# Altium schematic symbol library FPGA_Xilinx_Virtex6.SchLib: 28 symbols (part 7 of 15)
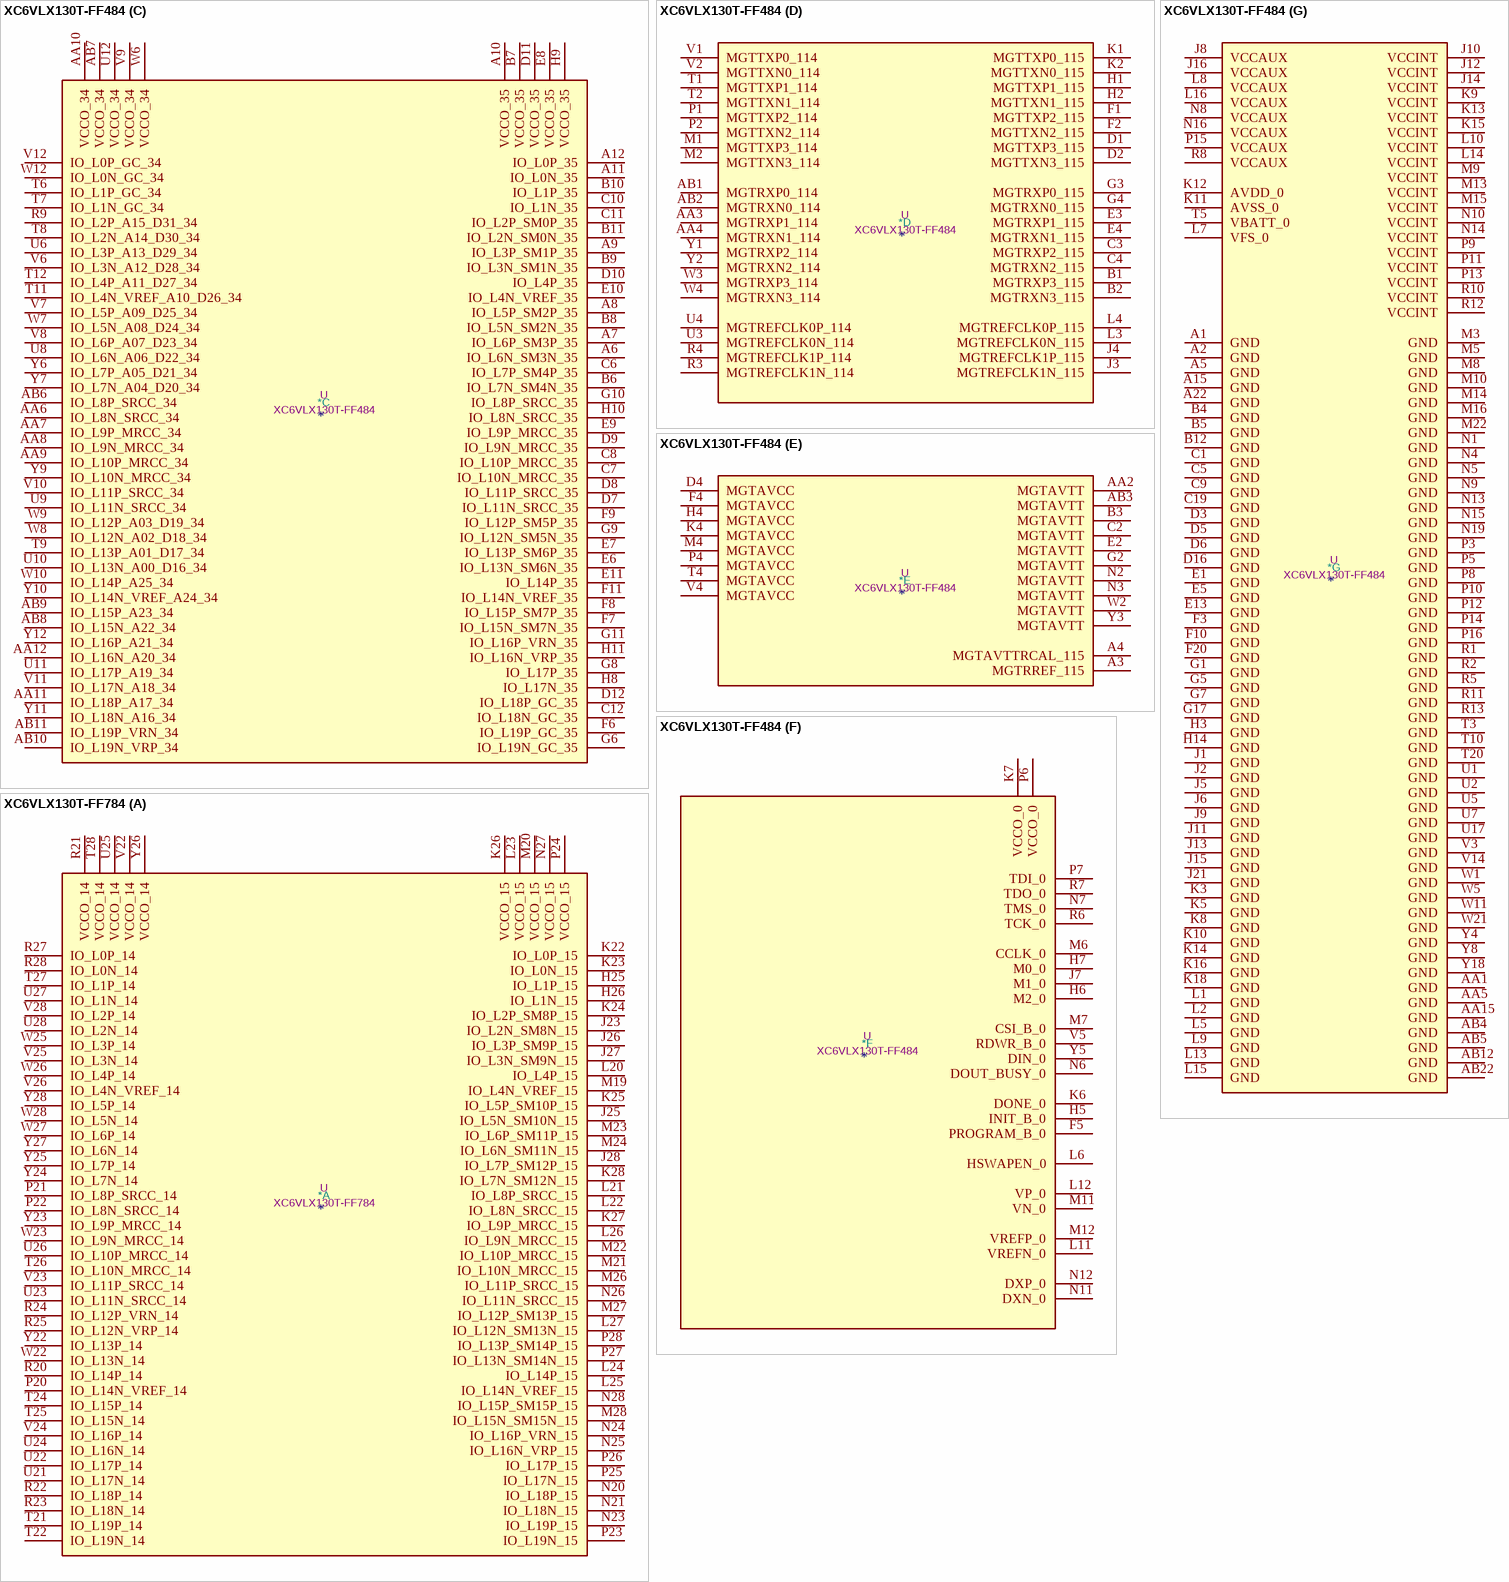
[diagram p107: symbols XC6VLX130T-FF484 to XC6VLX130T-FF784]

## XC6VLX130T-FF484
designator *  value XC6VLX130T-FF484  Reference: U
Virtex 6 LXT 130 XC6VLX130T-FF484; ki_keywords: FPGA; Description_: Virtex 6 LXT 130 XC6VLX130T-FF484
part A pins: A20 VCCO_15, A21 IO_L2P_SM8P_15, AA20 VCCO_14, AA21 IO_L15P_14, AA22 IO_L14N_VREF_14, AB20 IO_L16P_14, AB21 IO_L16N_14, B20 IO_L0P_15, B21 IO_L2N_SM8N_15, B22 IO_L5P_SM10P_15, C20 IO_L0N_15, C21 IO_L5N_SM10N_15, C22 IO_L10P_MRCC_15, D19 IO_L7N_SM12N_15, D20 IO_L9P_MRCC_15, D21 VCCO_15, D22 IO_L10N_MRCC_15, E19 IO_L7P_SM12P_15, E20 IO_L9N_MRCC_15, E21 IO_L11P_SRCC_15, E22 IO_L11N_SRCC_15, F18 IO_L1N_15, F19 IO_L3N_SM9N_15, F21 IO_L12P_SM13P_15, F22 IO_L12N_SM13N_15, G18 IO_L1P_15, G19 IO_L3P_SM9P_15, G20 IO_L17N_15, G21 IO_L15P_SM15P_15, G22 VCCO_15, H17 IO_L14P_15, H18 IO_L14N_VREF_15, H19 VCCO_15, H20 IO_L17P_15, H21 IO_L15N_SM15N_15, H22 IO_L18N_15, J17 IO_L4N_VREF_15, J18 IO_L4P_15, J19 IO_L8N_SRCC_15, J20 IO_L13P_SM14P_15, J22 IO_L18P_15, K17 IO_L6P_SM11P_15, K19 IO_L8P_SRCC_15, K20 IO_L13N_SM14N_15, K21 IO_L19P_15, K22 IO_L19N_15, L17 IO_L6N_SM11N_15, L18 IO_L16P_VRN_15, L19 IO_L16N_VRP_15, L20 VCCO_15, L21 IO_L3N_14, L22 IO_L3P_14, M17 VCCO_14, M18 IO_L0P_14, M19 IO_L1N_14, M20 IO_L1P_14, M21 IO_L7P_14, N17 IO_L6P_14, N18 IO_L0N_14, N20 IO_L7N_14, N21 IO_L2N_14, N22 IO_L2P_14, P17 IO_L6N_14, P18 IO_L12P_VRN_14, P19 IO_L9P_MRCC_14, P20 IO_L9N_MRCC_14, P21 VCCO_14, P22 IO_L4P_14, R17 IO_L12N_VRP_14, R18 VCCO_14, R19 IO_L11P_SRCC_14, R20 IO_L11N_SRCC_14, R21 IO_L5P_14, R22 IO_L4N_VREF_14, T18 IO_L17P_14, T19 IO_L17N_14, T21 IO_L8N_SRCC_14, T22 IO_L5N_14, U19 IO_L13P_14, U20 IO_L13N_14, U21 IO_L8P_SRCC_14, U22 VCCO_14, V20 IO_L19P_14, V21 IO_L19N_14, V22 IO_L10N_MRCC_14, W20 IO_L18N_14, W22 IO_L10P_MRCC_14, Y20 IO_L18P_14, Y21 IO_L15N_14, Y22 IO_L14P_14
part B pins: A13 IO_L12P_25, A14 IO_L2P_25, A16 IO_L5P_25, A17 IO_L7P_25, A18 IO_L7N_25, A19 IO_L10P_MRCC_25, AA13 IO_L16N_CSO_B_24, AA14 IO_L18N_24, AA16 IO_L11P_SRCC_24, AA17 IO_L10N_MRCC_24, AA18 IO_L8N_SRCC_24, AA19 IO_L9P_MRCC_24, AB13 IO_L16P_RS0_24, AB14 IO_L18P_24, AB15 IO_L19P_24, AB16 IO_L19N_24, AB17 VCCO_24, AB18 IO_L8P_SRCC_24, AB19 IO_L9N_MRCC_24, B13 IO_L12N_25, B14 IO_L2N_25, B15 IO_L1P_25, B16 IO_L5N_25, B17 VCCO_25, B18 IO_L13P_25, B19 IO_L10N_MRCC_25, C13 IO_L8P_SRCC_25, C14 VCCO_25, C15 IO_L1N_25, C16 IO_L11P_SRCC_25, C17 IO_L11N_SRCC_25, C18 IO_L13N_25, D13 IO_L8N_SRCC_25, D14 IO_L0P_25, D15 IO_L3P_25, D17 IO_L17P_25, D18 IO_L17N_25, E12 IO_L6N_25, E14 IO_L0N_25, E15 IO_L3N_25, E16 IO_L9P_MRCC_25, E17 IO_L19P_GC_25, E18 VCCO_25, F12 IO_L6P_25, F13 IO_L4P_25, F14 IO_L14N_VREF_25, F15 VCCO_25, F16 IO_L9N_MRCC_25, F17 IO_L19N_GC_25, G12 VCCO_25, G13 IO_L4N_VREF_25, G14 IO_L14P_25, G15 IO_L18P_GC_25, G16 IO_L15P_25, H12 IO_L16P_VRN_25, H13 IO_L16N_VRP_25, H15 IO_L18N_GC_25, H16 IO_L15N_25, R14 IO_L12P_D3_24, R15 IO_L12N_D2_FS2_24, R16 IO_L2N_D14_24, T13 IO_L0P_GC_24, T14 IO_L15P_FWE_B_24, T15 VCCO_24, T16 IO_L2P_D15_24, T17 IO_L1P_GC_24, U13 IO_L0N_GC_24, U14 IO_L15N_RS1_24, U15 IO_L13P_D1_FS1_24, U16 IO_L6N_D6_24, U18 IO_L1N_GC_24, V13 IO_L4P_D11_24, V15 IO_L13N_D0_FS0_24, V16 IO_L6P_D7_24, V17 IO_L3P_D13_24, V18 IO_L3N_D12_24, V19 VCCO_24, W13 IO_L4N_VREF_D10_24, W14 IO_L17N_VRP_24, W15 IO_L14P_FCS_B_24, W16 VCCO_24, W17 IO_L5N_D8_24, W18 IO_L5P_D9_24, W19 IO_L7P_D5_24, Y13 VCCO_24, Y14 IO_L17P_VRN_24, Y15 IO_L14N_VREF_FOE_B_MOSI_24, Y16 IO_L11N_SRCC_24, Y17 IO_L10P_MRCC_24, Y19 IO_L7N_D4_24
part C pins: A6 IO_L6N_SM3N_35, A7 IO_L6P_SM3P_35, A8 IO_L5P_SM2P_35, A9 IO_L3P_SM1P_35, A10 VCCO_35, A11 IO_L0N_35, A12 IO_L0P_35, AA6 IO_L8N_SRCC_34, AA7 IO_L9P_MRCC_34, AA8 IO_L9N_MRCC_34, AA9 IO_L10P_MRCC_34, AA10 VCCO_34, AA11 IO_L18P_A17_34, AA12 IO_L16N_A20_34, AB6 IO_L8P_SRCC_34, AB7 VCCO_34, AB8 IO_L15N_A22_34, AB9 IO_L15P_A23_34, AB10 IO_L19N_VRP_34, AB11 IO_L19P_VRN_34, B6 IO_L7N_SM4N_35, B7 VCCO_35, B8 IO_L5N_SM2N_35, B9 IO_L3N_SM1N_35, B10 IO_L1P_35, B11 IO_L2N_SM0N_35, C6 IO_L7P_SM4P_35, C7 IO_L10N_MRCC_35, C8 IO_L10P_MRCC_35, C10 IO_L1N_35, C11 IO_L2P_SM0P_35, C12 IO_L18N_GC_35, D7 IO_L11N_SRCC_35, D8 IO_L11P_SRCC_35, D9 IO_L9N_MRCC_35, D10 IO_L4P_35, D11 VCCO_35, D12 IO_L18P_GC_35, E6 IO_L13N_SM6N_35, E7 IO_L13P_SM6P_35, E8 VCCO_35, E9 IO_L9P_MRCC_35, E10 IO_L4N_VREF_35, E11 IO_L14P_35, F6 IO_L19P_GC_35, F7 IO_L15N_SM7N_35, F8 IO_L15P_SM7P_35, F9 IO_L12P_SM5P_35, F11 IO_L14N_VREF_35, G6 IO_L19N_GC_35, G8 IO_L17P_35, G9 IO_L12N_SM5N_35, G10 IO_L8P_SRCC_35, G11 IO_L16P_VRN_35, H8 IO_L17N_35, H9 VCCO_35, H10 IO_L8N_SRCC_35, H11 IO_L16N_VRP_35, R9 IO_L2P_A15_D31_34, T6 IO_L1P_GC_34, T7 IO_L1N_GC_34, T8 IO_L2N_A14_D30_34, T9 IO_L13P_A01_D17_34, T11 IO_L4N_VREF_A10_D26_34, T12 IO_L4P_A11_D27_34, U6 IO_L3P_A13_D29_34, U8 IO_L6N_A06_D22_34, U9 IO_L11N_SRCC_34, U10 IO_L13N_A00_D16_34, U11 IO_L17P_A19_34, U12 VCCO_34, V6 IO_L3N_A12_D28_34, V7 IO_L5P_A09_D25_34, V8 IO_L6P_A07_D23_34, V9 VCCO_34, V10 IO_L11P_SRCC_34, V11 IO_L17N_A18_34, V12 IO_L0P_GC_34, W6 VCCO_34, W7 IO_L5N_A08_D24_34, W8 IO_L12N_A02_D18_34, W9 IO_L12P_A03_D19_34, W10 IO_L14P_A25_34, W12 IO_L0N_GC_34, Y6 IO_L7P_A05_D21_34, Y7 IO_L7N_A04_D20_34, Y9 IO_L10N_MRCC_34, Y10 IO_L14N_VREF_A24_34, Y11 IO_L18N_A16_34, Y12 IO_L16P_A21_34
part D pins: AA3 MGTRXP1_114, AA4 MGTRXN1_114, AB1 MGTRXP0_114, AB2 MGTRXN0_114, B1 MGTRXP3_115, B2 MGTRXN3_115, C3 MGTRXP2_115, C4 MGTRXN2_115, D1 MGTTXP3_115, D2 MGTTXN3_115, E3 MGTRXP1_115, E4 MGTRXN1_115, F1 MGTTXP2_115, F2 MGTTXN2_115, G3 MGTRXP0_115, G4 MGTRXN0_115, H1 MGTTXP1_115, H2 MGTTXN1_115, J3 MGTREFCLK1N_115, J4 MGTREFCLK1P_115, K1 MGTTXP0_115, K2 MGTTXN0_115, L3 MGTREFCLK0N_115, L4 MGTREFCLK0P_115, M1 MGTTXP3_114, M2 MGTTXN3_114, P1 MGTTXP2_114, P2 MGTTXN2_114, R3 MGTREFCLK1N_114, R4 MGTREFCLK1P_114, T1 MGTTXP1_114, T2 MGTTXN1_114, U3 MGTREFCLK0N_114, U4 MGTREFCLK0P_114, V1 MGTTXP0_114, V2 MGTTXN0_114, W3 MGTRXP3_114, W4 MGTRXN3_114, Y1 MGTRXP2_114, Y2 MGTRXN2_114
part E pins: A3 MGTRREF_115, A4 MGTAVTTRCAL_115, AA2 MGTAVTT, AB3 MGTAVTT, B3 MGTAVTT, C2 MGTAVTT, D4 MGTAVCC, E2 MGTAVTT, F4 MGTAVCC, G2 MGTAVTT, H4 MGTAVCC, K4 MGTAVCC, M4 MGTAVCC, N2 MGTAVTT, N3 MGTAVTT, P4 MGTAVCC, T4 MGTAVCC, V4 MGTAVCC, W2 MGTAVTT, Y3 MGTAVTT
part F pins: F5 PROGRAM_B_0, H5 INIT_B_0, H6 M2_0, H7 M0_0, J7 M1_0, K6 DONE_0, K7 VCCO_0, L6 HSWAPEN_0, L11 VREFN_0, L12 VP_0, M6 CCLK_0, M7 CSI_B_0, M11 VN_0, M12 VREFP_0, N6 DOUT_BUSY_0, N7 TMS_0, N11 DXN_0, N12 DXP_0, P6 VCCO_0, P7 TDI_0, R6 TCK_0, R7 TDO_0, V5 RDWR_B_0, Y5 DIN_0
part G pins: A1 GND, A2 GND, A5 GND, A15 GND, A22 GND, AA1 GND, AA5 GND, AA15 GND, AB4 GND, AB5 GND, AB12 GND, AB22 GND, B4 GND, B5 GND, B12 GND, C1 GND, C5 GND, C9 GND, C19 GND, D3 GND, D5 GND, D6 GND, D16 GND, E1 GND, E5 GND, E13 GND, F3 GND, F10 GND, F20 GND, G1 GND, G5 GND, G7 GND, G17 GND, H3 GND, H14 GND, J1 GND, J2 GND, J5 GND, J6 GND, J8 VCCAUX, J9 GND, J10 VCCINT, J11 GND, J12 VCCINT, J13 GND, J14 VCCINT, J15 GND, J16 VCCAUX, J21 GND, K3 GND, K5 GND, K8 GND, K9 VCCINT, K10 GND, K11 AVSS_0, K12 AVDD_0, K13 VCCINT, K14 GND, K15 VCCINT, K16 GND, K18 GND, L1 GND, L2 GND, L5 GND, L7 VFS_0, L8 VCCAUX, L9 GND, L10 VCCINT, L13 GND, L14 VCCINT, L15 GND, L16 VCCAUX, M3 GND, M5 GND, M8 GND, M9 VCCINT, M10 GND, M13 VCCINT, M14 GND, M15 VCCINT, M16 GND, M22 GND, N1 GND, N4 GND, N5 GND, N8 VCCAUX, N9 GND, N10 VCCINT, N13 GND, N14 VCCINT, N15 GND, N16 VCCAUX, N19 GND, P3 GND, P5 GND, P8 GND, P9 VCCINT, P10 GND, P11 VCCINT, P12 GND, P13 VCCINT, P14 GND, P15 VCCAUX, P16 GND, R1 GND, R2 GND, R5 GND, R8 VCCAUX, R10 VCCINT, R11 GND, R12 VCCINT, R13 GND, T3 GND, T5 VBATT_0, T10 GND, T20 GND, U1 GND, U2 GND, U5 GND, U7 GND, U17 GND, V3 GND, V14 GND, W1 GND, W5 GND, W11 GND, W21 GND, Y4 GND, Y8 GND, Y18 GND

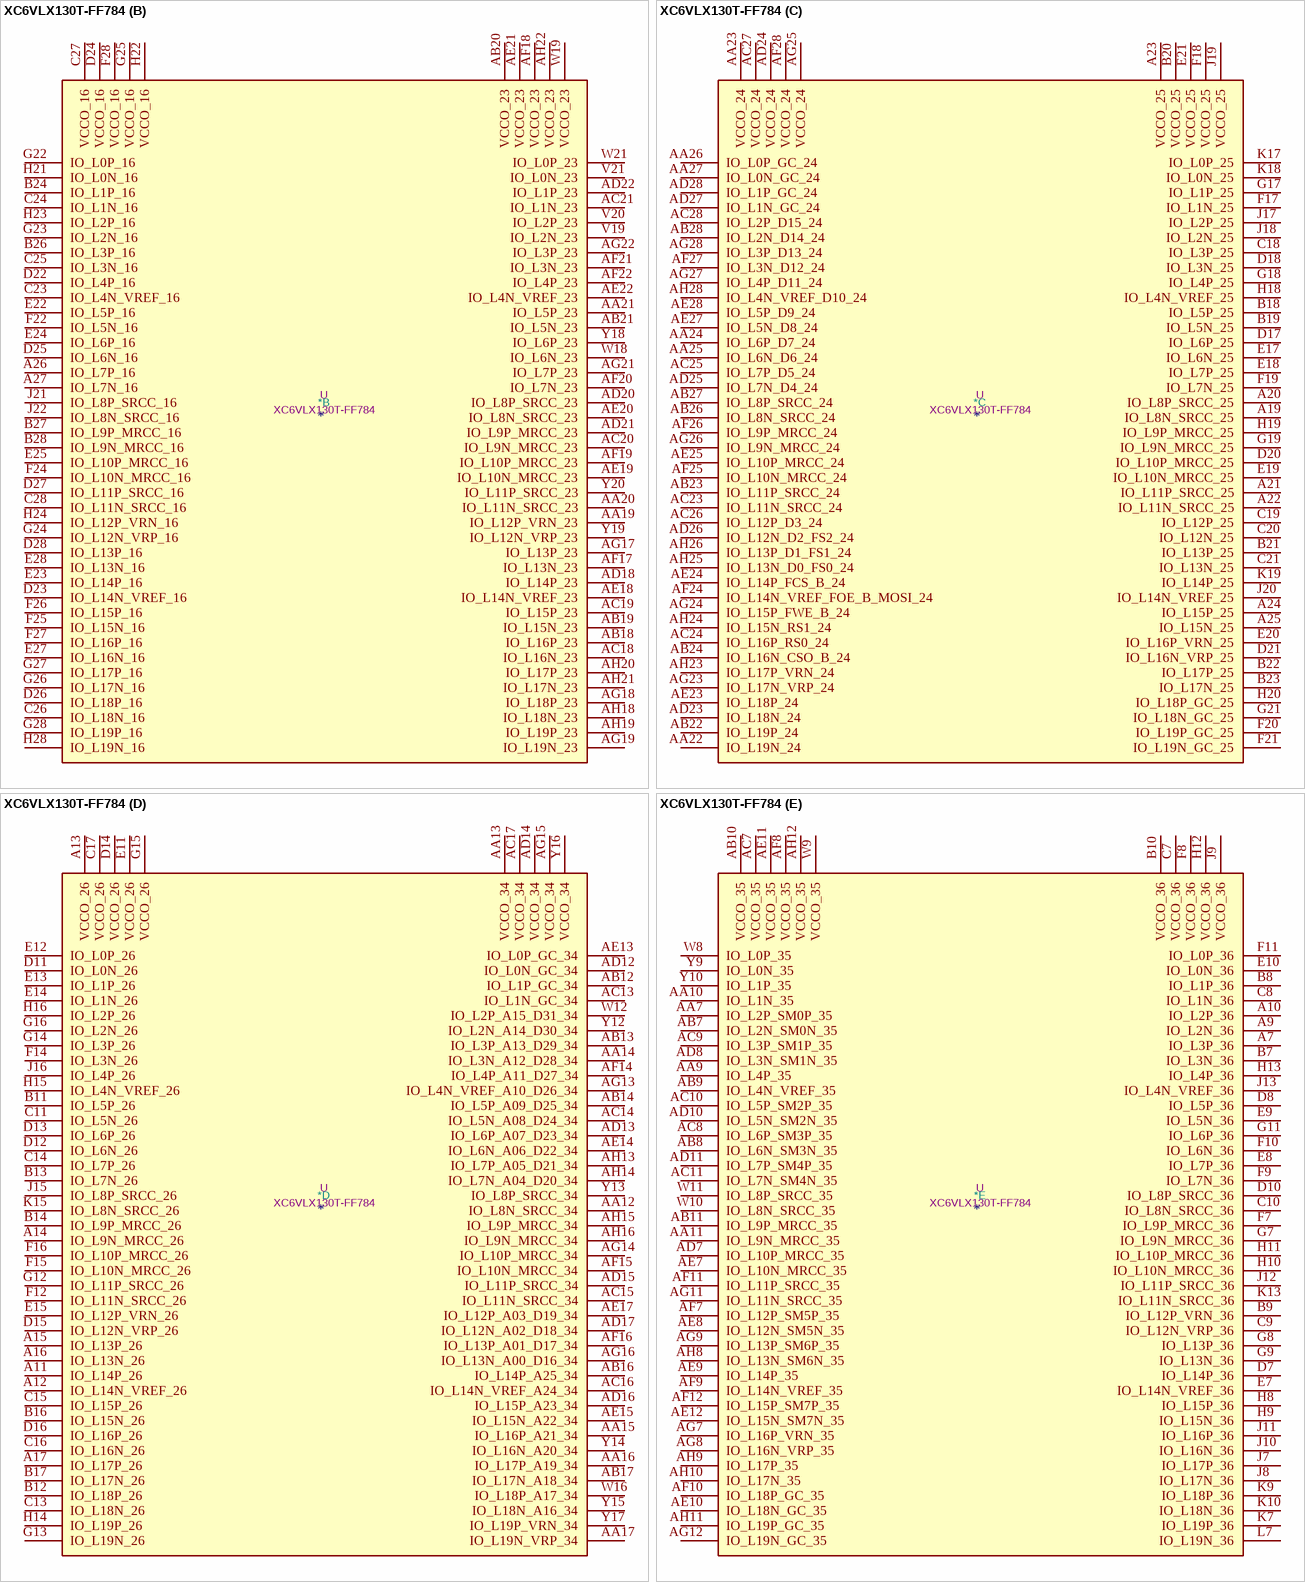
[diagram p39: symbol XC6VLX130T-FF784]

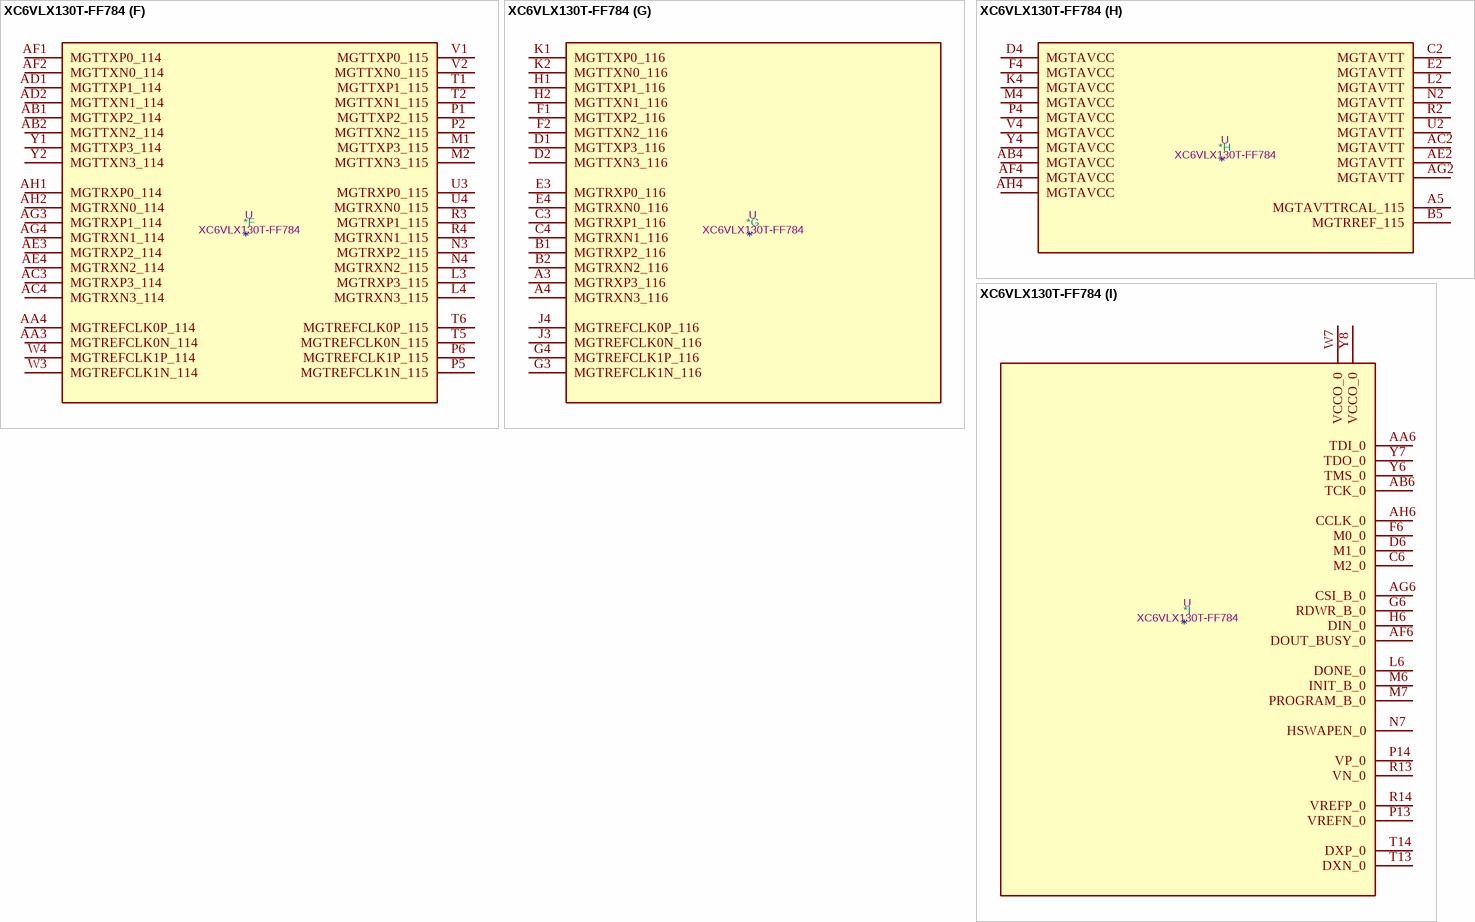
[diagram p40: symbol XC6VLX130T-FF784]

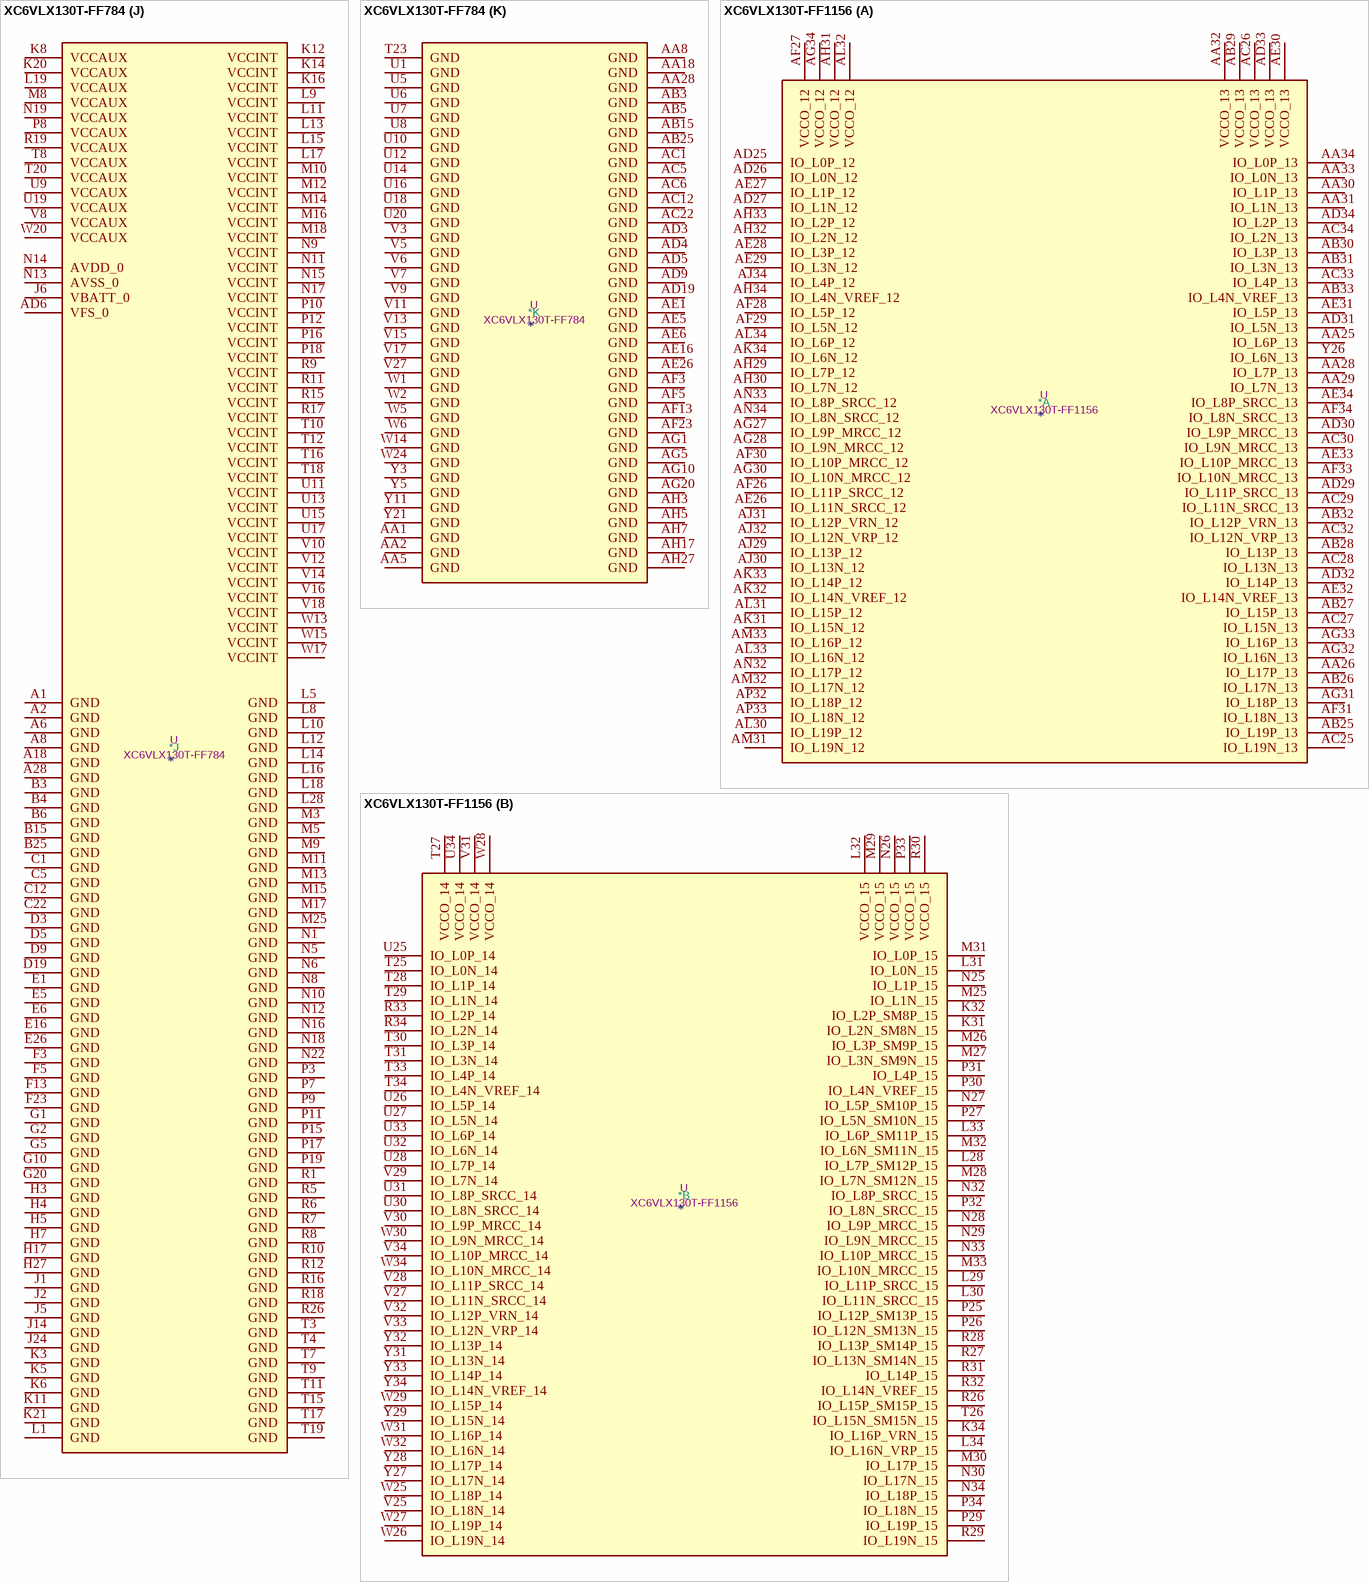
[diagram p41: symbols XC6VLX130T-FF784 to XC6VLX130T-FF1156]

## XC6VLX130T-FF784
designator *  value XC6VLX130T-FF784  Reference: U
Virtex 6 LXT 130 XC6VLX130T-FF784; ki_keywords: FPGA; Description_: Virtex 6 LXT 130 XC6VLX130T-FF784
part A pins: H25 IO_L1P_15, H26 IO_L1N_15, J23 IO_L2N_SM8N_15, J25 IO_L5N_SM10N_15, J26 IO_L3P_SM9P_15, J27 IO_L3N_SM9N_15, J28 IO_L7P_SM12P_15, K22 IO_L0P_15, K23 IO_L0N_15, K24 IO_L2P_SM8P_15, K25 IO_L5P_SM10P_15, K26 VCCO_15, K27 IO_L9P_MRCC_15, K28 IO_L7N_SM12N_15, L20 IO_L4P_15, L21 IO_L8P_SRCC_15, L22 IO_L8N_SRCC_15, L23 VCCO_15, L24 IO_L14P_15, L25 IO_L14N_VREF_15, L26 IO_L9N_MRCC_15, L27 IO_L12N_SM13N_15, M19 IO_L4N_VREF_15, M20 VCCO_15, M21 IO_L10N_MRCC_15, M22 IO_L10P_MRCC_15, M23 IO_L6P_SM11P_15, M24 IO_L6N_SM11N_15, M26 IO_L11P_SRCC_15, M27 IO_L12P_SM13P_15, M28 IO_L15N_SM15N_15, N20 IO_L18P_15, N21 IO_L18N_15, N23 IO_L19P_15, N24 IO_L16P_VRN_15, N25 IO_L16N_VRP_15, N26 IO_L11N_SRCC_15, N27 VCCO_15, N28 IO_L15P_SM15P_15, P20 IO_L14N_VREF_14, P21 IO_L8P_SRCC_14, P22 IO_L8N_SRCC_14, P23 IO_L19N_15, P24 VCCO_15, P25 IO_L17N_15, P26 IO_L17P_15, P27 IO_L13N_SM14N_15, P28 IO_L13P_SM14P_15, R20 IO_L14P_14, R21 VCCO_14, R22 IO_L18P_14, R23 IO_L18N_14, R24 IO_L12P_VRN_14, R25 IO_L12N_VRP_14, R27 IO_L0P_14, R28 IO_L0N_14, T21 IO_L19P_14, T22 IO_L19N_14, T24 IO_L15P_14, T25 IO_L15N_14, T26 IO_L10N_MRCC_14, T27 IO_L1P_14, T28 VCCO_14, U21 IO_L17N_14, U22 IO_L17P_14, U23 IO_L11N_SRCC_14, U24 IO_L16N_14, U25 VCCO_14, U26 IO_L10P_MRCC_14, U27 IO_L1N_14, U28 IO_L2N_14, V22 VCCO_14, V23 IO_L11P_SRCC_14, V24 IO_L16P_14, V25 IO_L3N_14, V26 IO_L4N_VREF_14, V28 IO_L2P_14, W22 IO_L13N_14, W23 IO_L9N_MRCC_14, W25 IO_L3P_14, W26 IO_L4P_14, W27 IO_L6P_14, W28 IO_L5N_14, Y22 IO_L13P_14, Y23 IO_L9P_MRCC_14, Y24 IO_L7N_14, Y25 IO_L7P_14, Y26 VCCO_14, Y27 IO_L6N_14, Y28 IO_L5P_14
part B pins: A26 IO_L7P_16, A27 IO_L7N_16, AA19 IO_L12P_VRN_23, AA20 IO_L11N_SRCC_23, AA21 IO_L5P_23, AB18 IO_L16P_23, AB19 IO_L15N_23, AB20 VCCO_23, AB21 IO_L5N_23, AC18 IO_L16N_23, AC19 IO_L15P_23, AC20 IO_L9N_MRCC_23, AC21 IO_L1N_23, AD18 IO_L14P_23, AD20 IO_L8P_SRCC_23, AD21 IO_L9P_MRCC_23, AD22 IO_L1P_23, AE18 IO_L14N_VREF_23, AE19 IO_L10N_MRCC_23, AE20 IO_L8N_SRCC_23, AE21 VCCO_23, AE22 IO_L4N_VREF_23, AF17 IO_L13N_23, AF18 VCCO_23, AF19 IO_L10P_MRCC_23, AF20 IO_L7N_23, AF21 IO_L3N_23, AF22 IO_L4P_23, AG17 IO_L13P_23, AG18 IO_L18P_23, AG19 IO_L19N_23, AG21 IO_L7P_23, AG22 IO_L3P_23, AH18 IO_L18N_23, AH19 IO_L19P_23, AH20 IO_L17P_23, AH21 IO_L17N_23, AH22 VCCO_23, B24 IO_L1P_16, B26 IO_L3P_16, B27 IO_L9P_MRCC_16, B28 IO_L9N_MRCC_16, C23 IO_L4N_VREF_16, C24 IO_L1N_16, C25 IO_L3N_16, C26 IO_L18N_16, C27 VCCO_16, C28 IO_L11N_SRCC_16, D22 IO_L4P_16, D23 IO_L14N_VREF_16, D24 VCCO_16, D25 IO_L6N_16, D26 IO_L18P_16, D27 IO_L11P_SRCC_16, D28 IO_L13P_16, E22 IO_L5P_16, E23 IO_L14P_16, E24 IO_L6P_16, E25 IO_L10P_MRCC_16, E27 IO_L16N_16, E28 IO_L13N_16, F22 IO_L5N_16, F24 IO_L10N_MRCC_16, F25 IO_L15N_16, F26 IO_L15P_16, F27 IO_L16P_16, F28 VCCO_16, G22 IO_L0P_16, G23 IO_L2N_16, G24 IO_L12N_VRP_16, G25 VCCO_16, G26 IO_L17N_16, G27 IO_L17P_16, G28 IO_L19P_16, H21 IO_L0N_16, H22 VCCO_16, H23 IO_L2P_16, H24 IO_L12P_VRN_16, H28 IO_L19N_16, J21 IO_L8P_SRCC_16, J22 IO_L8N_SRCC_16, V19 IO_L2N_23, V20 IO_L2P_23, V21 IO_L0N_23, W18 IO_L6N_23, W19 VCCO_23, W21 IO_L0P_23, Y18 IO_L6P_23, Y19 IO_L12N_VRP_23, Y20 IO_L11P_SRCC_23
part C pins: A19 IO_L8N_SRCC_25, A20 IO_L8P_SRCC_25, A21 IO_L11P_SRCC_25, A22 IO_L11N_SRCC_25, A23 VCCO_25, A24 IO_L15P_25, A25 IO_L15N_25, AA22 IO_L19N_24, AA23 VCCO_24, AA24 IO_L6P_D7_24, AA25 IO_L6N_D6_24, AA26 IO_L0P_GC_24, AA27 IO_L0N_GC_24, AB22 IO_L19P_24, AB23 IO_L11P_SRCC_24, AB24 IO_L16N_CSO_B_24, AB26 IO_L8N_SRCC_24, AB27 IO_L8P_SRCC_24, AB28 IO_L2N_D14_24, AC23 IO_L11N_SRCC_24, AC24 IO_L16P_RS0_24, AC25 IO_L7P_D5_24, AC26 IO_L12P_D3_24, AC27 VCCO_24, AC28 IO_L2P_D15_24, AD23 IO_L18N_24, AD24 VCCO_24, AD25 IO_L7N_D4_24, AD26 IO_L12N_D2_FS2_24, AD27 IO_L1N_GC_24, AD28 IO_L1P_GC_24, AE23 IO_L18P_24, AE24 IO_L14P_FCS_B_24, AE25 IO_L10P_MRCC_24, AE27 IO_L5N_D8_24, AE28 IO_L5P_D9_24, AF24 IO_L14N_VREF_FOE_B_MOSI_24, AF25 IO_L10N_MRCC_24, AF26 IO_L9P_MRCC_24, AF27 IO_L3N_D12_24, AF28 VCCO_24, AG23 IO_L17N_VRP_24, AG24 IO_L15P_FWE_B_24, AG25 VCCO_24, AG26 IO_L9N_MRCC_24, AG27 IO_L4P_D11_24, AG28 IO_L3P_D13_24, AH23 IO_L17P_VRN_24, AH24 IO_L15N_RS1_24, AH25 IO_L13N_D0_FS0_24, AH26 IO_L13P_D1_FS1_24, AH28 IO_L4N_VREF_D10_24, B18 IO_L5P_25, B19 IO_L5N_25, B20 VCCO_25, B21 IO_L13P_25, B22 IO_L17P_25, B23 IO_L17N_25, C18 IO_L3P_25, C19 IO_L12P_25, C20 IO_L12N_25, C21 IO_L13N_25, D17 IO_L6P_25, D18 IO_L3N_25, D20 IO_L10P_MRCC_25, D21 IO_L16N_VRP_25, E17 IO_L6N_25, E18 IO_L7P_25, E19 IO_L10N_MRCC_25, E20 IO_L16P_VRN_25, E21 VCCO_25, F17 IO_L1N_25, F18 VCCO_25, F19 IO_L7N_25, F20 IO_L19P_GC_25, F21 IO_L19N_GC_25, G17 IO_L1P_25, G18 IO_L4P_25, G19 IO_L9N_MRCC_25, G21 IO_L18N_GC_25, H18 IO_L4N_VREF_25, H19 IO_L9P_MRCC_25, H20 IO_L18P_GC_25, J17 IO_L2P_25, J18 IO_L2N_25, J19 VCCO_25, J20 IO_L14N_VREF_25, K17 IO_L0P_25, K18 IO_L0N_25, K19 IO_L14P_25
part D pins: A11 IO_L14P_26, A12 IO_L14N_VREF_26, A13 VCCO_26, A14 IO_L9N_MRCC_26, A15 IO_L13P_26, A16 IO_L13N_26, A17 IO_L17P_26, AA12 IO_L8N_SRCC_34, AA13 VCCO_34, AA14 IO_L3N_A12_D28_34, AA15 IO_L16P_A21_34, AA16 IO_L17P_A19_34, AA17 IO_L19N_VRP_34, AB12 IO_L1P_GC_34, AB13 IO_L3P_A13_D29_34, AB14 IO_L5P_A09_D25_34, AB16 IO_L14P_A25_34, AB17 IO_L17N_A18_34, AC13 IO_L1N_GC_34, AC14 IO_L5N_A08_D24_34, AC15 IO_L11N_SRCC_34, AC16 IO_L14N_VREF_A24_34, AC17 VCCO_34, AD12 IO_L0N_GC_34, AD13 IO_L6P_A07_D23_34, AD14 VCCO_34, AD15 IO_L11P_SRCC_34, AD16 IO_L15P_A23_34, AD17 IO_L12N_A02_D18_34, AE13 IO_L0P_GC_34, AE14 IO_L6N_A06_D22_34, AE15 IO_L15N_A22_34, AE17 IO_L12P_A03_D19_34, AF14 IO_L4P_A11_D27_34, AF15 IO_L10N_MRCC_34, AF16 IO_L13P_A01_D17_34, AG13 IO_L4N_VREF_A10_D26_34, AG14 IO_L10P_MRCC_34, AG15 VCCO_34, AG16 IO_L13N_A00_D16_34, AH13 IO_L7P_A05_D21_34, AH14 IO_L7N_A04_D20_34, AH15 IO_L9P_MRCC_34, AH16 IO_L9N_MRCC_34, B11 IO_L5P_26, B12 IO_L18P_26, B13 IO_L7N_26, B14 IO_L9P_MRCC_26, B16 IO_L15N_26, B17 IO_L17N_26, C11 IO_L5N_26, C13 IO_L18N_26, C14 IO_L7P_26, C15 IO_L15P_26, C16 IO_L16N_26, C17 VCCO_26, D11 IO_L0N_26, D12 IO_L6N_26, D13 IO_L6P_26, D14 VCCO_26, D15 IO_L12N_VRP_26, D16 IO_L16P_26, E11 VCCO_26, E12 IO_L0P_26, E13 IO_L1P_26, E14 IO_L1N_26, E15 IO_L12P_VRN_26, F12 IO_L11N_SRCC_26, F14 IO_L3N_26, F15 IO_L10N_MRCC_26, F16 IO_L10P_MRCC_26, G12 IO_L11P_SRCC_26, G13 IO_L19N_26, G14 IO_L3P_26, G15 VCCO_26, G16 IO_L2N_26, H14 IO_L19P_26, H15 IO_L4N_VREF_26, H16 IO_L2P_26, J15 IO_L8P_SRCC_26, J16 IO_L4P_26, K15 IO_L8N_SRCC_26, W12 IO_L2P_A15_D31_34, W16 IO_L18P_A17_34, Y12 IO_L2N_A14_D30_34, Y13 IO_L8P_SRCC_34, Y14 IO_L16N_A20_34, Y15 IO_L18N_A16_34, Y16 VCCO_34, Y17 IO_L19P_VRN_34
part E pins: A7 IO_L3P_36, A9 IO_L2N_36, A10 IO_L2P_36, AA7 IO_L2P_SM0P_35, AA9 IO_L4P_35, AA10 IO_L1N_35, AA11 IO_L9N_MRCC_35, AB7 IO_L2N_SM0N_35, AB8 IO_L6N_SM3N_35, AB9 IO_L4N_VREF_35, AB10 VCCO_35, AB11 IO_L9P_MRCC_35, AC7 VCCO_35, AC8 IO_L6P_SM3P_35, AC9 IO_L3P_SM1P_35, AC10 IO_L5P_SM2P_35, AC11 IO_L7N_SM4N_35, AD7 IO_L10P_MRCC_35, AD8 IO_L3N_SM1N_35, AD10 IO_L5N_SM2N_35, AD11 IO_L7P_SM4P_35, AE7 IO_L10N_MRCC_35, AE8 IO_L12N_SM5N_35, AE9 IO_L14P_35, AE10 IO_L18N_GC_35, AE11 VCCO_35, AE12 IO_L15N_SM7N_35, AF7 IO_L12P_SM5P_35, AF8 VCCO_35, AF9 IO_L14N_VREF_35, AF10 IO_L18P_GC_35, AF11 IO_L11P_SRCC_35, AF12 IO_L15P_SM7P_35, AG7 IO_L16P_VRN_35, AG8 IO_L16N_VRP_35, AG9 IO_L13P_SM6P_35, AG11 IO_L11N_SRCC_35, AG12 IO_L19N_GC_35, AH8 IO_L13N_SM6N_35, AH9 IO_L17P_35, AH10 IO_L17N_35, AH11 IO_L19P_GC_35, AH12 VCCO_35, B7 IO_L3N_36, B8 IO_L1P_36, B9 IO_L12P_VRN_36, B10 VCCO_36, C7 VCCO_36, C8 IO_L1N_36, C9 IO_L12N_VRP_36, C10 IO_L8N_SRCC_36, D7 IO_L14P_36, D8 IO_L5P_36, D10 IO_L8P_SRCC_36, E7 IO_L14N_VREF_36, E8 IO_L7P_36, E9 IO_L5N_36, E10 IO_L0N_36, F7 IO_L9P_MRCC_36, F8 VCCO_36, F9 IO_L7N_36, F10 IO_L6N_36, F11 IO_L0P_36, G7 IO_L9N_MRCC_36, G8 IO_L13P_36, G9 IO_L13N_36, G11 IO_L6P_36, H8 IO_L15P_36, H9 IO_L15N_36, H10 IO_L10N_MRCC_36, H11 IO_L10P_MRCC_36, H12 VCCO_36, H13 IO_L4P_36, J7 IO_L17P_36, J8 IO_L17N_36, J9 VCCO_36, J10 IO_L16N_36, J11 IO_L16P_36, J12 IO_L11P_SRCC_36, J13 IO_L4N_VREF_36, K7 IO_L19P_36, K9 IO_L18P_36, K10 IO_L18N_36, K13 IO_L11N_SRCC_36, L7 IO_L19N_36, W8 IO_L0P_35, W9 VCCO_35, W10 IO_L8N_SRCC_35, W11 IO_L8P_SRCC_35, Y9 IO_L0N_35, Y10 IO_L1P_35
part F pins: AA3 MGTREFCLK0N_114, AA4 MGTREFCLK0P_114, AB1 MGTTXP2_114, AB2 MGTTXN2_114, AC3 MGTRXP3_114, AC4 MGTRXN3_114, AD1 MGTTXP1_114, AD2 MGTTXN1_114, AE3 MGTRXP2_114, AE4 MGTRXN2_114, AF1 MGTTXP0_114, AF2 MGTTXN0_114, AG3 MGTRXP1_114, AG4 MGTRXN1_114, AH1 MGTRXP0_114, AH2 MGTRXN0_114, L3 MGTRXP3_115, L4 MGTRXN3_115, M1 MGTTXP3_115, M2 MGTTXN3_115, N3 MGTRXP2_115, N4 MGTRXN2_115, P1 MGTTXP2_115, P2 MGTTXN2_115, P5 MGTREFCLK1N_115, P6 MGTREFCLK1P_115, R3 MGTRXP1_115, R4 MGTRXN1_115, T1 MGTTXP1_115, T2 MGTTXN1_115, T5 MGTREFCLK0N_115, T6 MGTREFCLK0P_115, U3 MGTRXP0_115, U4 MGTRXN0_115, V1 MGTTXP0_115, V2 MGTTXN0_115, W3 MGTREFCLK1N_114, W4 MGTREFCLK1P_114, Y1 MGTTXP3_114, Y2 MGTTXN3_114
part G pins: A3 MGTRXP3_116, A4 MGTRXN3_116, B1 MGTRXP2_116, B2 MGTRXN2_116, C3 MGTRXP1_116, C4 MGTRXN1_116, D1 MGTTXP3_116, D2 MGTTXN3_116, E3 MGTRXP0_116, E4 MGTRXN0_116, F1 MGTTXP2_116, F2 MGTTXN2_116, G3 MGTREFCLK1N_116, G4 MGTREFCLK1P_116, H1 MGTTXP1_116, H2 MGTTXN1_116, J3 MGTREFCLK0N_116, J4 MGTREFCLK0P_116, K1 MGTTXP0_116, K2 MGTTXN0_116
part H pins: A5 MGTAVTTRCAL_115, AB4 MGTAVCC, AC2 MGTAVTT, AE2 MGTAVTT, AF4 MGTAVCC, AG2 MGTAVTT, AH4 MGTAVCC, B5 MGTRREF_115, C2 MGTAVTT, D4 MGTAVCC, E2 MGTAVTT, F4 MGTAVCC, K4 MGTAVCC, L2 MGTAVTT, M4 MGTAVCC, N2 MGTAVTT, P4 MGTAVCC, R2 MGTAVTT, U2 MGTAVTT, V4 MGTAVCC, Y4 MGTAVCC
part I pins: AA6 TDI_0, AB6 TCK_0, AF6 DOUT_BUSY_0, AG6 CSI_B_0, AH6 CCLK_0, C6 M2_0, D6 M1_0, F6 M0_0, G6 RDWR_B_0, H6 DIN_0, L6 DONE_0, M6 INIT_B_0, M7 PROGRAM_B_0, N7 HSWAPEN_0, P13 VREFN_0, P14 VP_0, R13 VN_0, R14 VREFP_0, T13 DXN_0, T14 DXP_0, W7 VCCO_0, Y6 TMS_0, Y7 TDO_0, Y8 VCCO_0
part J pins: A1 GND, A2 GND, A6 GND, A8 GND, A18 GND, A28 GND, AD6 VFS_0, B3 GND, B4 GND, B6 GND, B15 GND, B25 GND, C1 GND, C5 GND, C12 GND, C22 GND, D3 GND, D5 GND, D9 GND, D19 GND, E1 GND, E5 GND, E6 GND, E16 GND, E26 GND, F3 GND, F5 GND, F13 GND, F23 GND, G1 GND, G2 GND, G5 GND, G10 GND, G20 GND, H3 GND, H4 GND, H5 GND, H7 GND, H17 GND, H27 GND, J1 GND, J2 GND, J5 GND, J6 VBATT_0, J14 GND, J24 GND, K3 GND, K5 GND, K6 GND, K8 VCCAUX, K11 GND, K12 VCCINT, K14 VCCINT, K16 VCCINT, K20 VCCAUX, K21 GND, L1 GND, L5 GND, L8 GND, L9 VCCINT, L10 GND, L11 VCCINT, L12 GND, L13 VCCINT, L14 GND, L15 VCCINT, L16 GND, L17 VCCINT, L18 GND, L19 VCCAUX, L28 GND, M3 GND, M5 GND, M8 VCCAUX, M9 GND, M10 VCCINT, M11 GND, M12 VCCINT, M13 GND, M14 VCCINT, M15 GND, M16 VCCINT, M17 GND, M18 VCCINT, M25 GND, N1 GND, N5 GND, N6 GND, N8 GND, N9 VCCINT, N10 GND, N11 VCCINT, N12 GND, N13 AVSS_0, N14 AVDD_0, N15 VCCINT, N16 GND, N17 VCCINT, N18 GND, N19 VCCAUX, N22 GND, P3 GND, P7 GND, P8 VCCAUX, P9 GND, P10 VCCINT, P11 GND, P12 VCCINT, P15 GND, P16 VCCINT, P17 GND, P18 VCCINT, P19 GND, R1 GND, R5 GND, R6 GND, R7 GND, R8 GND, R9 VCCINT, R10 GND, R11 VCCINT, R12 GND, R15 VCCINT, R16 GND, R17 VCCINT, R18 GND, R19 VCCAUX, R26 GND, T3 GND, T4 GND, T7 GND, T8 VCCAUX, T9 GND, T10 VCCINT, T11 GND, T12 VCCINT, T15 GND, T16 VCCINT, T17 GND, T18 VCCINT, T19 GND, T20 VCCAUX, U9 VCCAUX, U11 VCCINT, U13 VCCINT, U15 VCCINT, U17 VCCINT, U19 VCCAUX, V8 VCCAUX, V10 VCCINT, V12 VCCINT, V14 VCCINT, V16 VCCINT, V18 VCCINT, W13 VCCINT, W15 VCCINT, W17 VCCINT, W20 VCCAUX
part K pins: AA1 GND, AA2 GND, AA5 GND, AA8 GND, AA18 GND, AA28 GND, AB3 GND, AB5 GND, AB15 GND, AB25 GND, AC1 GND, AC5 GND, AC6 GND, AC12 GND, AC22 GND, AD3 GND, AD4 GND, AD5 GND, AD9 GND, AD19 GND, AE1 GND, AE5 GND, AE6 GND, AE16 GND, AE26 GND, AF3 GND, AF5 GND, AF13 GND, AF23 GND, AG1 GND, AG5 GND, AG10 GND, AG20 GND, AH3 GND, AH5 GND, AH7 GND, AH17 GND, AH27 GND, T23 GND, U1 GND, U5 GND, U6 GND, U7 GND, U8 GND, U10 GND, U12 GND, U14 GND, U16 GND, U18 GND, U20 GND, V3 GND, V5 GND, V6 GND, V7 GND, V9 GND, V11 GND, V13 GND, V15 GND, V17 GND, V27 GND, W1 GND, W2 GND, W5 GND, W6 GND, W14 GND, W24 GND, Y3 GND, Y5 GND, Y11 GND, Y21 GND

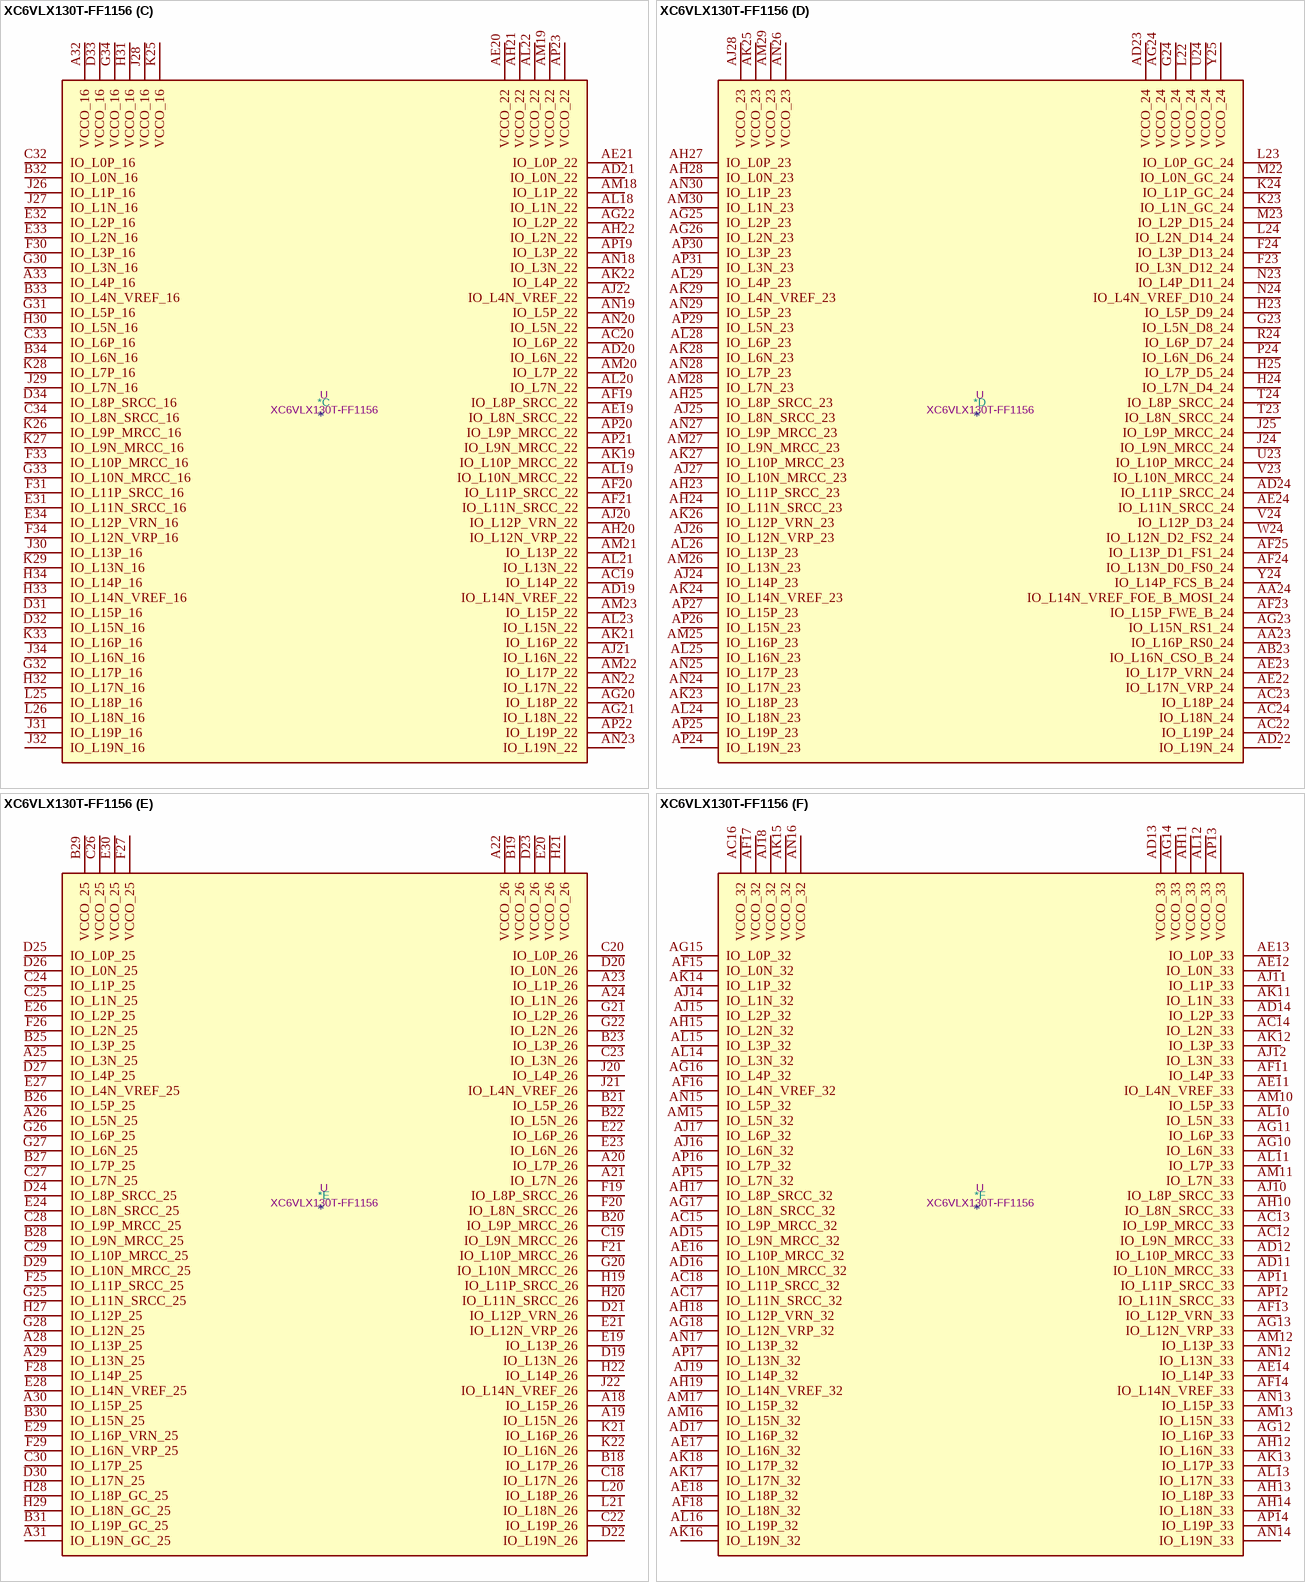
[diagram p42: symbol XC6VLX130T-FF1156]

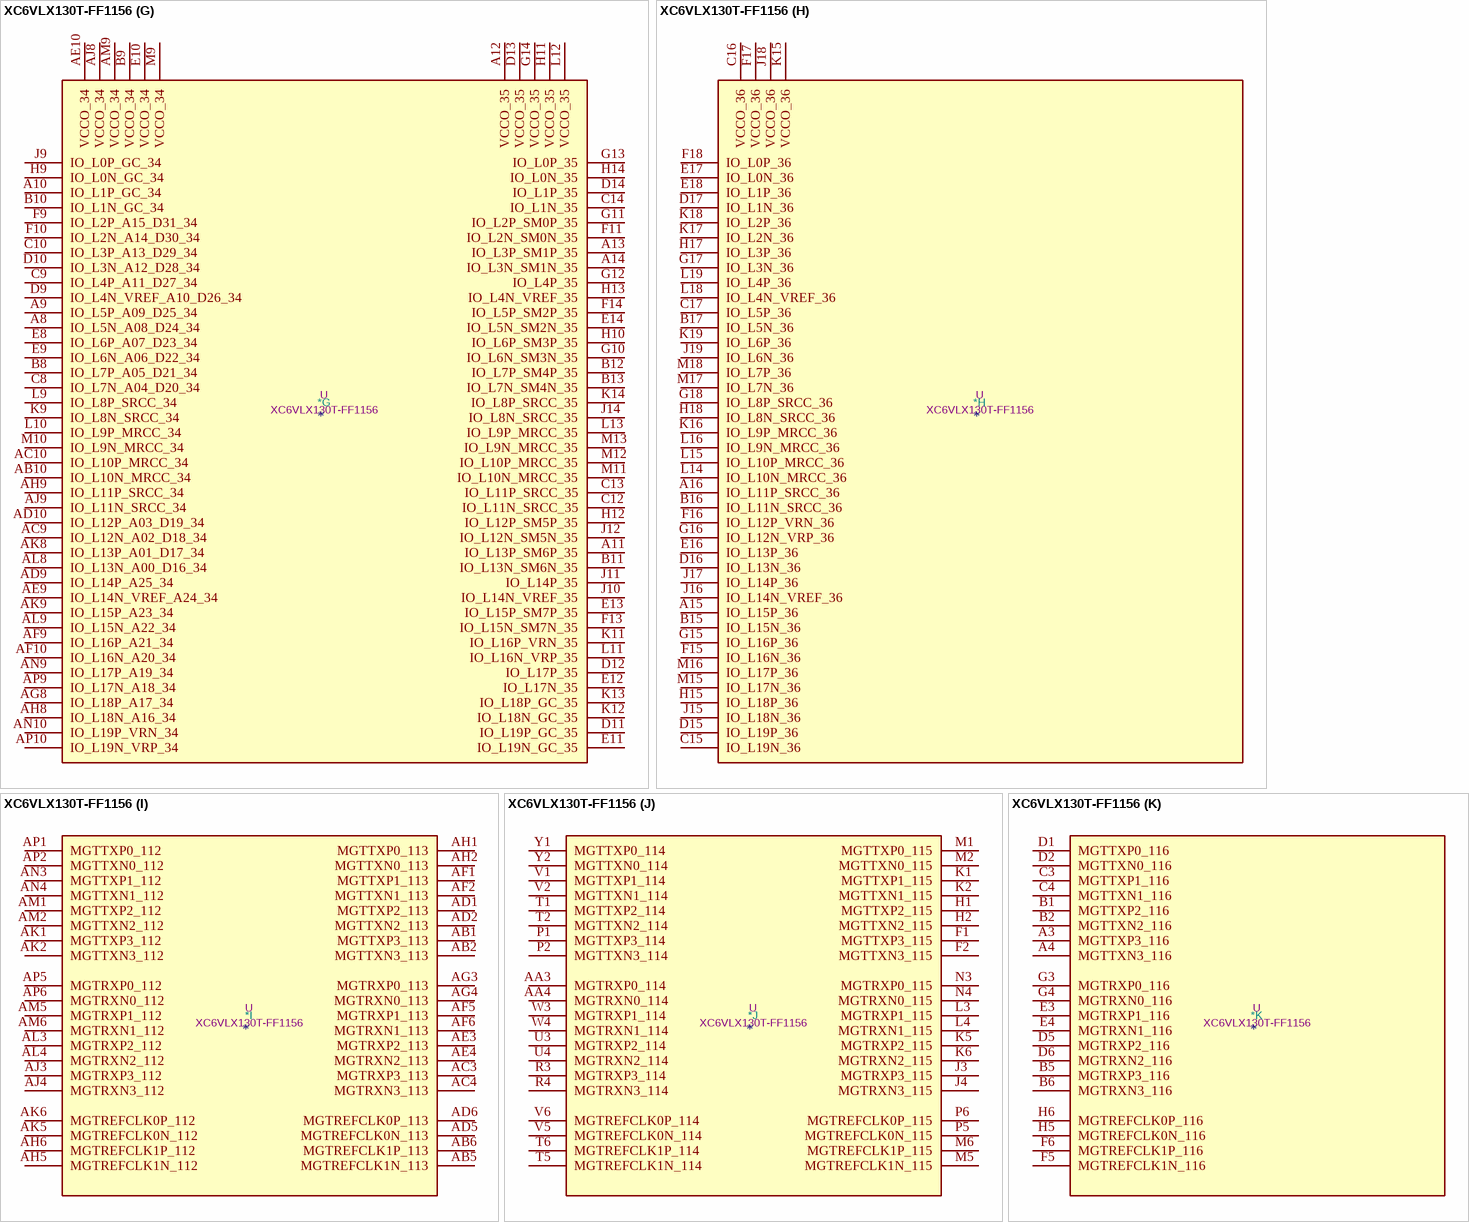
[diagram p43: symbol XC6VLX130T-FF1156]

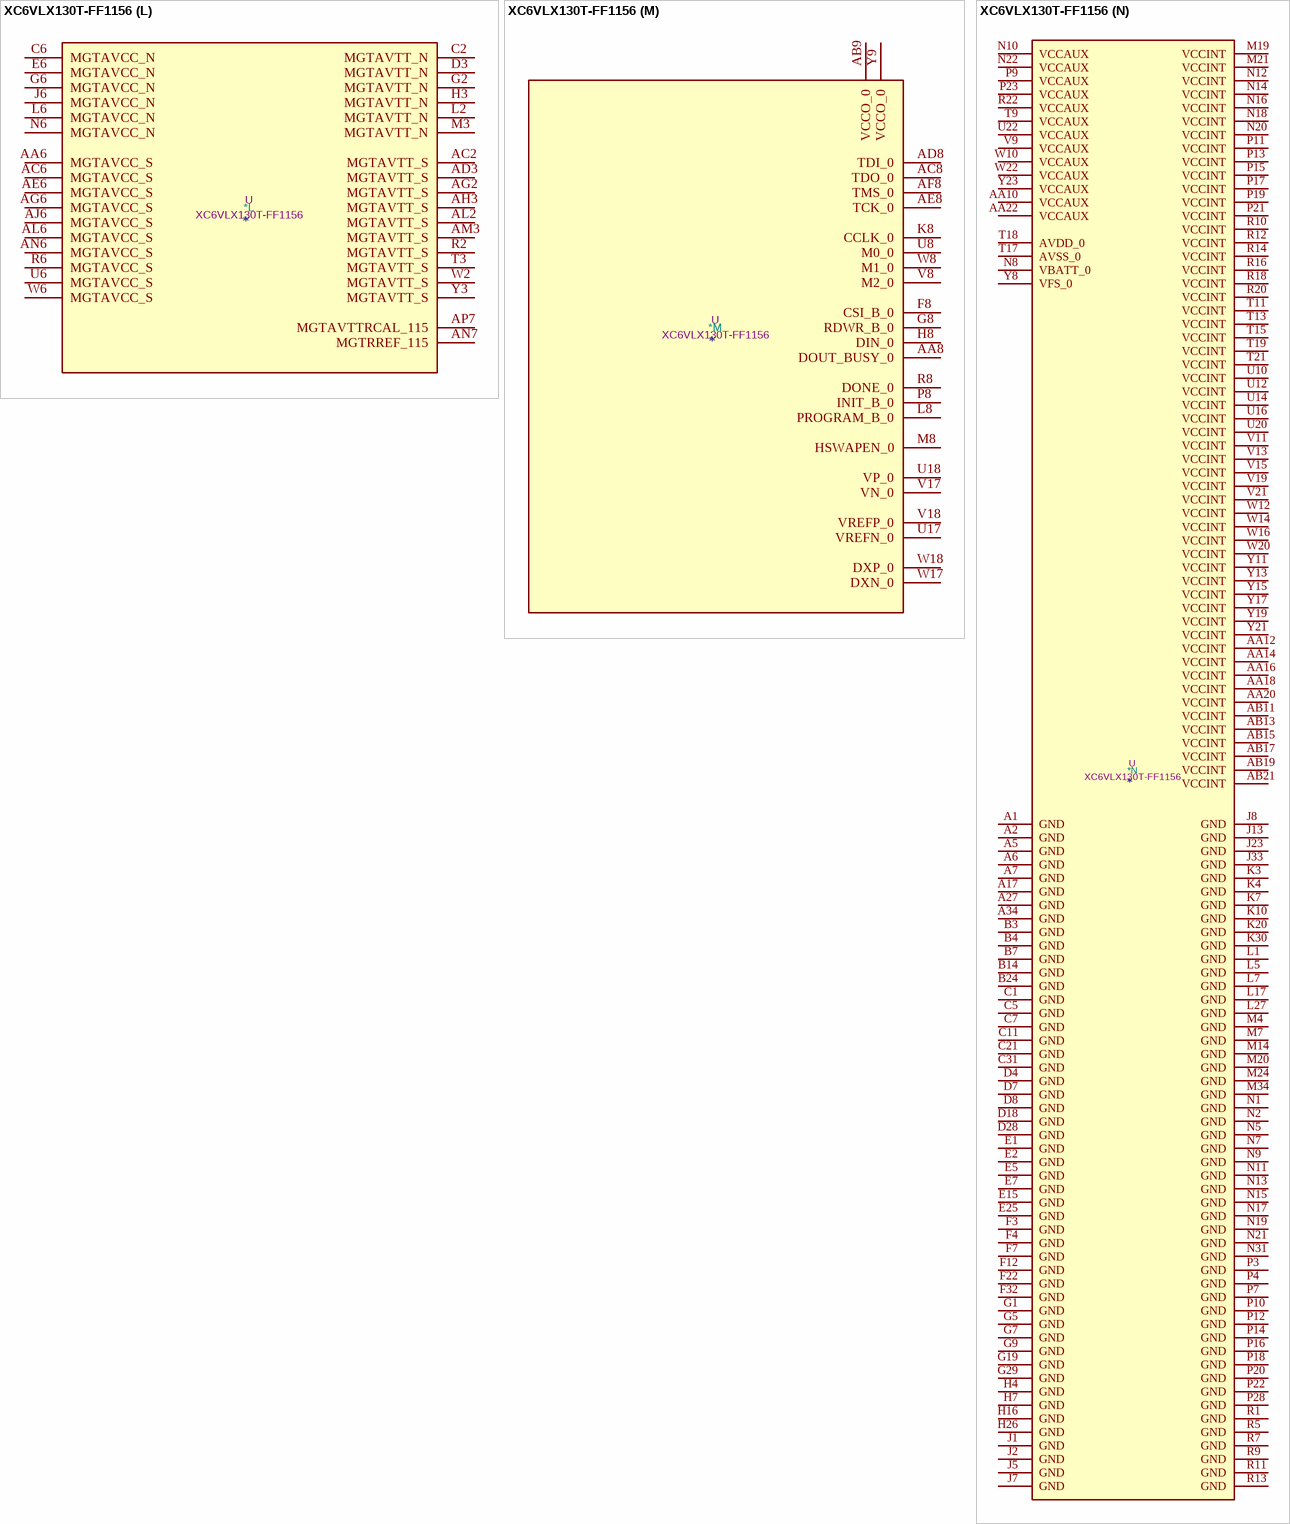
[diagram p44: symbol XC6VLX130T-FF1156]

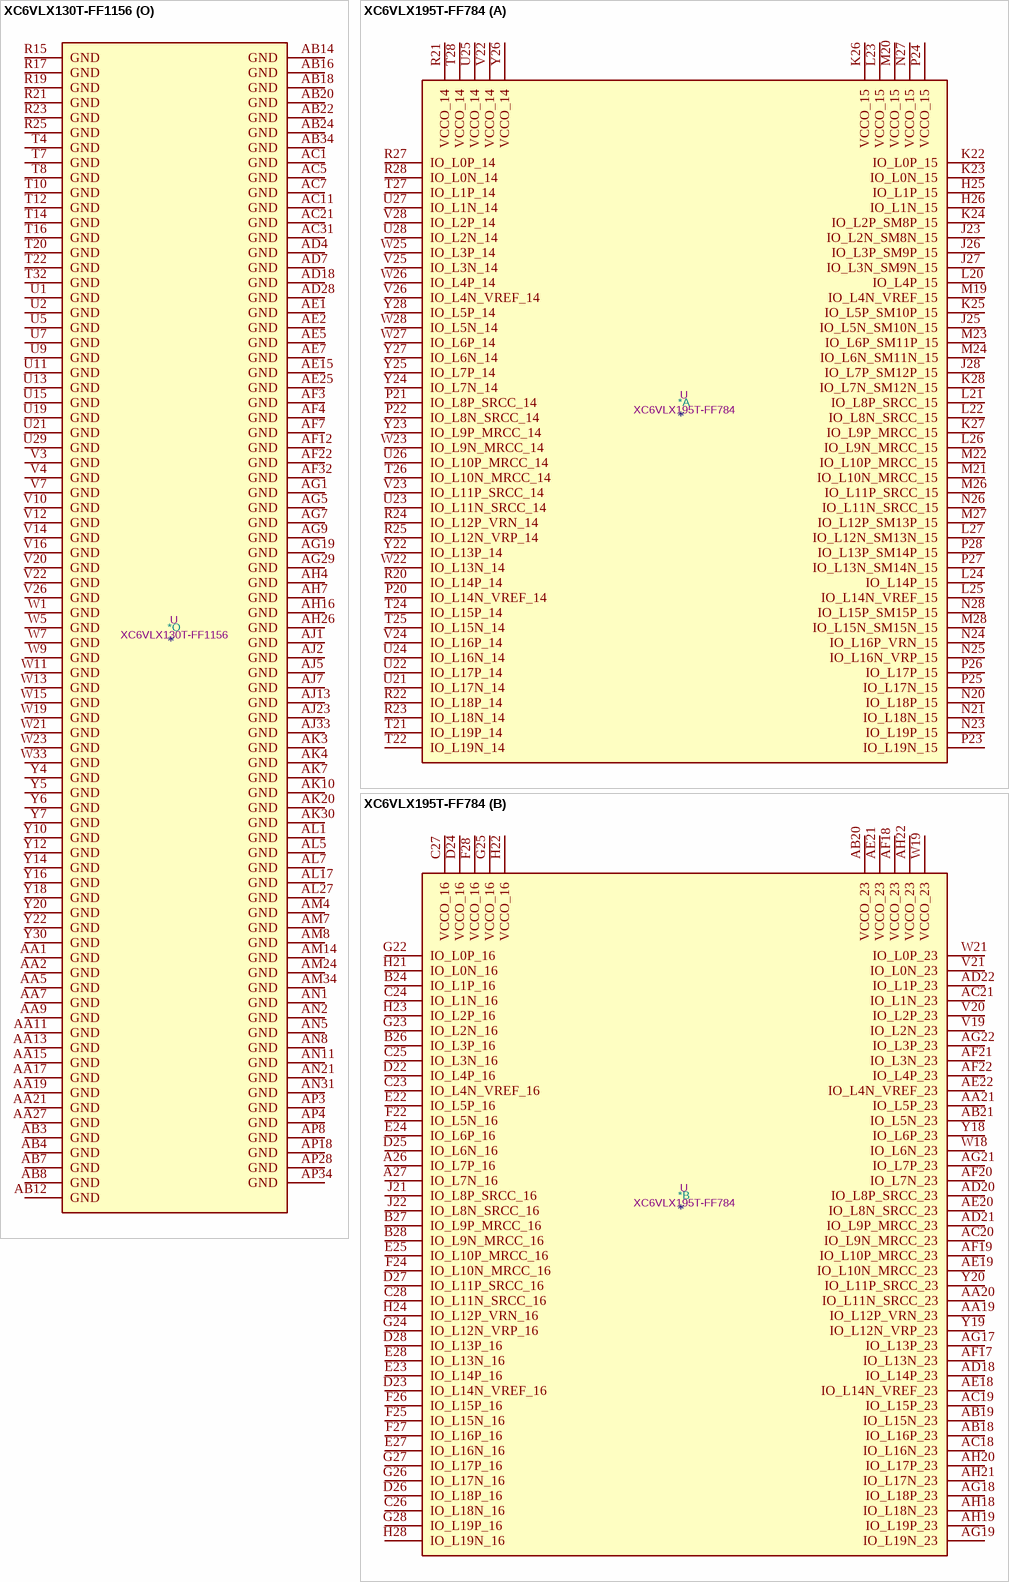
[diagram p45: symbols XC6VLX130T-FF1156 to XC6VLX195T-FF784]

## XC6VLX130T-FF1156
designator *  value XC6VLX130T-FF1156  Reference: U
Virtex 6 LXT 130 XC6VLX130T-FF1156; ki_keywords: FPGA; Description_: Virtex 6 LXT 130 XC6VLX130T-FF1156
part A pins: AA25 IO_L6P_13, AA26 IO_L17P_13, AA28 IO_L7P_13, AA29 IO_L7N_13, AA30 IO_L1P_13, AA31 IO_L1N_13, AA32 VCCO_13, AA33 IO_L0N_13, AA34 IO_L0P_13, AB25 IO_L19P_13, AB26 IO_L17N_13, AB27 IO_L15P_13, AB28 IO_L13P_13, AB29 VCCO_13, AB30 IO_L3P_13, AB31 IO_L3N_13, AB32 IO_L12P_VRN_13, AB33 IO_L4N_VREF_13, AC25 IO_L19N_13, AC26 VCCO_13, AC27 IO_L15N_13, AC28 IO_L13N_13, AC29 IO_L11N_SRCC_13, AC30 IO_L9N_MRCC_13, AC32 IO_L12N_VRP_13, AC33 IO_L4P_13, AC34 IO_L2N_13, AD25 IO_L0P_12, AD26 IO_L0N_12, AD27 IO_L1N_12, AD29 IO_L11P_SRCC_13, AD30 IO_L9P_MRCC_13, AD31 IO_L5N_13, AD32 IO_L14P_13, AD33 VCCO_13, AD34 IO_L2P_13, AE26 IO_L11N_SRCC_12, AE27 IO_L1P_12, AE28 IO_L3P_12, AE29 IO_L3N_12, AE30 VCCO_13, AE31 IO_L5P_13, AE32 IO_L14N_VREF_13, AE33 IO_L10P_MRCC_13, AE34 IO_L8P_SRCC_13, AF26 IO_L11P_SRCC_12, AF27 VCCO_12, AF28 IO_L5P_12, AF29 IO_L5N_12, AF30 IO_L10P_MRCC_12, AF31 IO_L18N_13, AF33 IO_L10N_MRCC_13, AF34 IO_L8N_SRCC_13, AG27 IO_L9P_MRCC_12, AG28 IO_L9N_MRCC_12, AG30 IO_L10N_MRCC_12, AG31 IO_L18P_13, AG32 IO_L16N_13, AG33 IO_L16P_13, AG34 VCCO_12, AH29 IO_L7P_12, AH30 IO_L7N_12, AH31 VCCO_12, AH32 IO_L2N_12, AH33 IO_L2P_12, AH34 IO_L4N_VREF_12, AJ29 IO_L13P_12, AJ30 IO_L13N_12, AJ31 IO_L12P_VRN_12, AJ32 IO_L12N_VRP_12, AJ34 IO_L4P_12, AK31 IO_L15N_12, AK32 IO_L14N_VREF_12, AK33 IO_L14P_12, AK34 IO_L6N_12, AL30 IO_L19P_12, AL31 IO_L15P_12, AL32 VCCO_12, AL33 IO_L16N_12, AL34 IO_L6P_12, AM31 IO_L19N_12, AM32 IO_L17N_12, AM33 IO_L16P_12, AN32 IO_L17P_12, AN33 IO_L8P_SRCC_12, AN34 IO_L8N_SRCC_12, AP32 IO_L18P_12, AP33 IO_L18N_12, Y26 IO_L6N_13
part B pins: K31 IO_L2N_SM8N_15, K32 IO_L2P_SM8P_15, K34 IO_L16P_VRN_15, L28 IO_L7P_SM12P_15, L29 IO_L11P_SRCC_15, L30 IO_L11N_SRCC_15, L31 IO_L0N_15, L32 VCCO_15, L33 IO_L6P_SM11P_15, L34 IO_L16N_VRP_15, M25 IO_L1N_15, M26 IO_L3P_SM9P_15, M27 IO_L3N_SM9N_15, M28 IO_L7N_SM12N_15, M29 VCCO_15, M30 IO_L17P_15, M31 IO_L0P_15, M32 IO_L6N_SM11N_15, M33 IO_L10N_MRCC_15, N25 IO_L1P_15, N26 VCCO_15, N27 IO_L5P_SM10P_15, N28 IO_L9P_MRCC_15, N29 IO_L9N_MRCC_15, N30 IO_L17N_15, N32 IO_L8P_SRCC_15, N33 IO_L10P_MRCC_15, N34 IO_L18P_15, P25 IO_L12P_SM13P_15, P26 IO_L12N_SM13N_15, P27 IO_L5N_SM10N_15, P29 IO_L19P_15, P30 IO_L4N_VREF_15, P31 IO_L4P_15, P32 IO_L8N_SRCC_15, P33 VCCO_15, P34 IO_L18N_15, R26 IO_L15P_SM15P_15, R27 IO_L13N_SM14N_15, R28 IO_L13P_SM14P_15, R29 IO_L19N_15, R30 VCCO_15, R31 IO_L14P_15, R32 IO_L14N_VREF_15, R33 IO_L2P_14, R34 IO_L2N_14, T25 IO_L0N_14, T26 IO_L15N_SM15N_15, T27 VCCO_14, T28 IO_L1P_14, T29 IO_L1N_14, T30 IO_L3P_14, T31 IO_L3N_14, T33 IO_L4P_14, T34 IO_L4N_VREF_14, U25 IO_L0P_14, U26 IO_L5P_14, U27 IO_L5N_14, U28 IO_L7P_14, U30 IO_L8N_SRCC_14, U31 IO_L8P_SRCC_14, U32 IO_L6N_14, U33 IO_L6P_14, U34 VCCO_14, V25 IO_L18N_14, V27 IO_L11N_SRCC_14, V28 IO_L11P_SRCC_14, V29 IO_L7N_14, V30 IO_L9P_MRCC_14, V31 VCCO_14, V32 IO_L12P_VRN_14, V33 IO_L12N_VRP_14, V34 IO_L10P_MRCC_14, W25 IO_L18P_14, W26 IO_L19N_14, W27 IO_L19P_14, W28 VCCO_14, W29 IO_L15P_14, W30 IO_L9N_MRCC_14, W31 IO_L16P_14, W32 IO_L16N_14, W34 IO_L10N_MRCC_14, Y27 IO_L17N_14, Y28 IO_L17P_14, Y29 IO_L15N_14, Y31 IO_L13N_14, Y32 IO_L13P_14, Y33 IO_L14P_14, Y34 IO_L14N_VREF_14
part C pins: A32 VCCO_16, A33 IO_L4P_16, AC19 IO_L14P_22, AC20 IO_L6P_22, AD19 IO_L14N_VREF_22, AD20 IO_L6N_22, AD21 IO_L0N_22, AE19 IO_L8N_SRCC_22, AE20 VCCO_22, AE21 IO_L0P_22, AF19 IO_L8P_SRCC_22, AF20 IO_L11P_SRCC_22, AF21 IO_L11N_SRCC_22, AG20 IO_L18P_22, AG21 IO_L18N_22, AG22 IO_L2P_22, AH20 IO_L12N_VRP_22, AH21 VCCO_22, AH22 IO_L2N_22, AJ20 IO_L12P_VRN_22, AJ21 IO_L16N_22, AJ22 IO_L4N_VREF_22, AK19 IO_L10P_MRCC_22, AK21 IO_L16P_22, AK22 IO_L4P_22, AL18 IO_L1N_22, AL19 IO_L10N_MRCC_22, AL20 IO_L7N_22, AL21 IO_L13N_22, AL22 VCCO_22, AL23 IO_L15N_22, AM18 IO_L1P_22, AM19 VCCO_22, AM20 IO_L7P_22, AM21 IO_L13P_22, AM22 IO_L17P_22, AM23 IO_L15P_22, AN18 IO_L3N_22, AN19 IO_L5P_22, AN20 IO_L5N_22, AN22 IO_L17N_22, AN23 IO_L19N_22, AP19 IO_L3P_22, AP20 IO_L9P_MRCC_22, AP21 IO_L9N_MRCC_22, AP22 IO_L19P_22, AP23 VCCO_22, B32 IO_L0N_16, B33 IO_L4N_VREF_16, B34 IO_L6N_16, C32 IO_L0P_16, C33 IO_L6P_16, C34 IO_L8N_SRCC_16, D31 IO_L15P_16, D32 IO_L15N_16, D33 VCCO_16, D34 IO_L8P_SRCC_16, E31 IO_L11N_SRCC_16, E32 IO_L2P_16, E33 IO_L2N_16, E34 IO_L12P_VRN_16, F30 IO_L3P_16, F31 IO_L11P_SRCC_16, F33 IO_L10P_MRCC_16, F34 IO_L12N_VRP_16, G30 IO_L3N_16, G31 IO_L5P_16, G32 IO_L17P_16, G33 IO_L10N_MRCC_16, G34 VCCO_16, H30 IO_L5N_16, H31 VCCO_16, H32 IO_L17N_16, H33 IO_L14N_VREF_16, H34 IO_L14P_16, J26 IO_L1P_16, J27 IO_L1N_16, J28 VCCO_16, J29 IO_L7N_16, J30 IO_L13P_16, J31 IO_L19P_16, J32 IO_L19N_16, J34 IO_L16N_16, K25 VCCO_16, K26 IO_L9P_MRCC_16, K27 IO_L9N_MRCC_16, K28 IO_L7P_16, K29 IO_L13N_16, K33 IO_L16P_16, L25 IO_L18P_16, L26 IO_L18N_16
part D pins: AA23 IO_L16P_RS0_24, AA24 IO_L14N_VREF_FOE_B_MOSI_24, AB23 IO_L16N_CSO_B_24, AC22 IO_L19P_24, AC23 IO_L18P_24, AC24 IO_L18N_24, AD22 IO_L19N_24, AD23 VCCO_24, AD24 IO_L11P_SRCC_24, AE22 IO_L17N_VRP_24, AE23 IO_L17P_VRN_24, AE24 IO_L11N_SRCC_24, AF23 IO_L15P_FWE_B_24, AF24 IO_L13N_D0_FS0_24, AF25 IO_L13P_D1_FS1_24, AG23 IO_L15N_RS1_24, AG24 VCCO_24, AG25 IO_L2P_23, AG26 IO_L2N_23, AH23 IO_L11P_SRCC_23, AH24 IO_L11N_SRCC_23, AH25 IO_L8P_SRCC_23, AH27 IO_L0P_23, AH28 IO_L0N_23, AJ24 IO_L14P_23, AJ25 IO_L8N_SRCC_23, AJ26 IO_L12N_VRP_23, AJ27 IO_L10N_MRCC_23, AJ28 VCCO_23, AK23 IO_L18P_23, AK24 IO_L14N_VREF_23, AK25 VCCO_23, AK26 IO_L12P_VRN_23, AK27 IO_L10P_MRCC_23, AK28 IO_L6N_23, AK29 IO_L4N_VREF_23, AL24 IO_L18N_23, AL25 IO_L16N_23, AL26 IO_L13P_23, AL28 IO_L6P_23, AL29 IO_L4P_23, AM25 IO_L16P_23, AM26 IO_L13N_23, AM27 IO_L9N_MRCC_23, AM28 IO_L7N_23, AM29 VCCO_23, AM30 IO_L1N_23, AN24 IO_L17N_23, AN25 IO_L17P_23, AN26 VCCO_23, AN27 IO_L9P_MRCC_23, AN28 IO_L7P_23, AN29 IO_L5P_23, AN30 IO_L1P_23, AP24 IO_L19N_23, AP25 IO_L19P_23, AP26 IO_L15N_23, AP27 IO_L15P_23, AP29 IO_L5N_23, AP30 IO_L3P_23, AP31 IO_L3N_23, F23 IO_L3N_D12_24, F24 IO_L3P_D13_24, G23 IO_L5N_D8_24, G24 VCCO_24, H23 IO_L5P_D9_24, H24 IO_L7N_D4_24, H25 IO_L7P_D5_24, J24 IO_L9N_MRCC_24, J25 IO_L9P_MRCC_24, K23 IO_L1N_GC_24, K24 IO_L1P_GC_24, L22 VCCO_24, L23 IO_L0P_GC_24, L24 IO_L2N_D14_24, M22 IO_L0N_GC_24, M23 IO_L2P_D15_24, N23 IO_L4P_D11_24, N24 IO_L4N_VREF_D10_24, P24 IO_L6N_D6_24, R24 IO_L6P_D7_24, T23 IO_L8N_SRCC_24, T24 IO_L8P_SRCC_24, U23 IO_L10P_MRCC_24, U24 VCCO_24, V23 IO_L10N_MRCC_24, V24 IO_L12P_D3_24, W24 IO_L12N_D2_FS2_24, Y24 IO_L14P_FCS_B_24, Y25 VCCO_24
part E pins: A18 IO_L15P_26, A19 IO_L15N_26, A20 IO_L7P_26, A21 IO_L7N_26, A22 VCCO_26, A23 IO_L1P_26, A24 IO_L1N_26, A25 IO_L3N_25, A26 IO_L5N_25, A28 IO_L13P_25, A29 IO_L13N_25, A30 IO_L15P_25, A31 IO_L19N_GC_25, B18 IO_L17P_26, B19 VCCO_26, B20 IO_L9P_MRCC_26, B21 IO_L5P_26, B22 IO_L5N_26, B23 IO_L3P_26, B25 IO_L3P_25, B26 IO_L5P_25, B27 IO_L7P_25, B28 IO_L9N_MRCC_25, B29 VCCO_25, B30 IO_L15N_25, B31 IO_L19P_GC_25, C18 IO_L17N_26, C19 IO_L9N_MRCC_26, C20 IO_L0P_26, C22 IO_L19P_26, C23 IO_L3N_26, C24 IO_L1P_25, C25 IO_L1N_25, C26 VCCO_25, C27 IO_L7N_25, C28 IO_L9P_MRCC_25, C29 IO_L10P_MRCC_25, C30 IO_L17P_25, D19 IO_L13N_26, D20 IO_L0N_26, D21 IO_L12P_VRN_26, D22 IO_L19N_26, D23 VCCO_26, D24 IO_L8P_SRCC_25, D25 IO_L0P_25, D26 IO_L0N_25, D27 IO_L4P_25, D29 IO_L10N_MRCC_25, D30 IO_L17N_25, E19 IO_L13P_26, E20 VCCO_26, E21 IO_L12N_VRP_26, E22 IO_L6P_26, E23 IO_L6N_26, E24 IO_L8N_SRCC_25, E26 IO_L2P_25, E27 IO_L4N_VREF_25, E28 IO_L14N_VREF_25, E29 IO_L16P_VRN_25, E30 VCCO_25, F19 IO_L8P_SRCC_26, F20 IO_L8N_SRCC_26, F21 IO_L10P_MRCC_26, F25 IO_L11P_SRCC_25, F26 IO_L2N_25, F27 VCCO_25, F28 IO_L14P_25, F29 IO_L16N_VRP_25, G20 IO_L10N_MRCC_26, G21 IO_L2P_26, G22 IO_L2N_26, G25 IO_L11N_SRCC_25, G26 IO_L6P_25, G27 IO_L6N_25, G28 IO_L12N_25, H19 IO_L11P_SRCC_26, H20 IO_L11N_SRCC_26, H21 VCCO_26, H22 IO_L14P_26, H27 IO_L12P_25, H28 IO_L18P_GC_25, H29 IO_L18N_GC_25, J20 IO_L4P_26, J21 IO_L4N_VREF_26, J22 IO_L14N_VREF_26, K21 IO_L16P_26, K22 IO_L16N_26, L20 IO_L18P_26, L21 IO_L18N_26
part F pins: AC12 IO_L9N_MRCC_33, AC13 IO_L9P_MRCC_33, AC14 IO_L2N_33, AC15 IO_L9P_MRCC_32, AC16 VCCO_32, AC17 IO_L11N_SRCC_32, AC18 IO_L11P_SRCC_32, AD11 IO_L10N_MRCC_33, AD12 IO_L10P_MRCC_33, AD13 VCCO_33, AD14 IO_L2P_33, AD15 IO_L9N_MRCC_32, AD16 IO_L10N_MRCC_32, AD17 IO_L16P_32, AE11 IO_L4N_VREF_33, AE12 IO_L0N_33, AE13 IO_L0P_33, AE14 IO_L14P_33, AE16 IO_L10P_MRCC_32, AE17 IO_L16N_32, AE18 IO_L18P_32, AF11 IO_L4P_33, AF13 IO_L12P_VRN_33, AF14 IO_L14N_VREF_33, AF15 IO_L0N_32, AF16 IO_L4N_VREF_32, AF17 VCCO_32, AF18 IO_L18N_32, AG10 IO_L6N_33, AG11 IO_L6P_33, AG12 IO_L16P_33, AG13 IO_L12N_VRP_33, AG14 VCCO_33, AG15 IO_L0P_32, AG16 IO_L4P_32, AG17 IO_L8N_SRCC_32, AG18 IO_L12N_VRP_32, AH10 IO_L8N_SRCC_33, AH11 VCCO_33, AH12 IO_L16N_33, AH13 IO_L18P_33, AH14 IO_L18N_33, AH15 IO_L2N_32, AH17 IO_L8P_SRCC_32, AH18 IO_L12P_VRN_32, AH19 IO_L14N_VREF_32, AJ10 IO_L8P_SRCC_33, AJ11 IO_L1P_33, AJ12 IO_L3N_33, AJ14 IO_L1N_32, AJ15 IO_L2P_32, AJ16 IO_L6N_32, AJ17 IO_L6P_32, AJ18 VCCO_32, AJ19 IO_L14P_32, AK11 IO_L1N_33, AK12 IO_L3P_33, AK13 IO_L17P_33, AK14 IO_L1P_32, AK15 VCCO_32, AK16 IO_L19N_32, AK17 IO_L17N_32, AK18 IO_L17P_32, AL10 IO_L5N_33, AL11 IO_L7P_33, AL12 VCCO_33, AL13 IO_L17N_33, AL14 IO_L3N_32, AL15 IO_L3P_32, AL16 IO_L19P_32, AM10 IO_L5P_33, AM11 IO_L7N_33, AM12 IO_L13P_33, AM13 IO_L15N_33, AM15 IO_L5N_32, AM16 IO_L15N_32, AM17 IO_L15P_32, AN12 IO_L13N_33, AN13 IO_L15P_33, AN14 IO_L19N_33, AN15 IO_L5P_32, AN16 VCCO_32, AN17 IO_L13P_32, AP11 IO_L11P_SRCC_33, AP12 IO_L11N_SRCC_33, AP13 VCCO_33, AP14 IO_L19P_33, AP15 IO_L7N_32, AP16 IO_L7P_32, AP17 IO_L13N_32
part G pins: A8 IO_L5N_A08_D24_34, A9 IO_L5P_A09_D25_34, A10 IO_L1P_GC_34, A11 IO_L13P_SM6P_35, A12 VCCO_35, A13 IO_L3P_SM1P_35, A14 IO_L3N_SM1N_35, AB10 IO_L10N_MRCC_34, AC9 IO_L12N_A02_D18_34, AC10 IO_L10P_MRCC_34, AD9 IO_L14P_A25_34, AD10 IO_L12P_A03_D19_34, AE9 IO_L14N_VREF_A24_34, AE10 VCCO_34, AF9 IO_L16P_A21_34, AF10 IO_L16N_A20_34, AG8 IO_L18P_A17_34, AH8 IO_L18N_A16_34, AH9 IO_L11P_SRCC_34, AJ8 VCCO_34, AJ9 IO_L11N_SRCC_34, AK8 IO_L13P_A01_D17_34, AK9 IO_L15P_A23_34, AL8 IO_L13N_A00_D16_34, AL9 IO_L15N_A22_34, AM9 VCCO_34, AN9 IO_L17P_A19_34, AN10 IO_L19P_VRN_34, AP9 IO_L17N_A18_34, AP10 IO_L19N_VRP_34, B8 IO_L7P_A05_D21_34, B9 VCCO_34, B10 IO_L1N_GC_34, B11 IO_L13N_SM6N_35, B12 IO_L7P_SM4P_35, B13 IO_L7N_SM4N_35, C8 IO_L7N_A04_D20_34, C9 IO_L4P_A11_D27_34, C10 IO_L3P_A13_D29_34, C12 IO_L11N_SRCC_35, C13 IO_L11P_SRCC_35, C14 IO_L1N_35, D9 IO_L4N_VREF_A10_D26_34, D10 IO_L3N_A12_D28_34, D11 IO_L19P_GC_35, D12 IO_L17P_35, D13 VCCO_35, D14 IO_L1P_35, E8 IO_L6P_A07_D23_34, E9 IO_L6N_A06_D22_34, E10 VCCO_34, E11 IO_L19N_GC_35, E12 IO_L17N_35, E13 IO_L15P_SM7P_35, E14 IO_L5N_SM2N_35, F9 IO_L2P_A15_D31_34, F10 IO_L2N_A14_D30_34, F11 IO_L2N_SM0N_35, F13 IO_L15N_SM7N_35, F14 IO_L5P_SM2P_35, G10 IO_L6N_SM3N_35, G11 IO_L2P_SM0P_35, G12 IO_L4P_35, G13 IO_L0P_35, G14 VCCO_35, H9 IO_L0N_GC_34, H10 IO_L6P_SM3P_35, H11 VCCO_35, H12 IO_L12P_SM5P_35, H13 IO_L4N_VREF_35, H14 IO_L0N_35, J9 IO_L0P_GC_34, J10 IO_L14N_VREF_35, J11 IO_L14P_35, J12 IO_L12N_SM5N_35, J14 IO_L8N_SRCC_35, K9 IO_L8N_SRCC_34, K11 IO_L16P_VRN_35, K12 IO_L18N_GC_35, K13 IO_L18P_GC_35, K14 IO_L8P_SRCC_35, L9 IO_L8P_SRCC_34, L10 IO_L9P_MRCC_34, L11 IO_L16N_VRP_35, L12 VCCO_35, L13 IO_L9P_MRCC_35, M9 VCCO_34, M10 IO_L9N_MRCC_34, M11 IO_L10N_MRCC_35, M12 IO_L10P_MRCC_35, M13 IO_L9N_MRCC_35
part H pins: A15 IO_L15P_36, A16 IO_L11P_SRCC_36, B15 IO_L15N_36, B16 IO_L11N_SRCC_36, B17 IO_L5N_36, C15 IO_L19N_36, C16 VCCO_36, C17 IO_L5P_36, D15 IO_L19P_36, D16 IO_L13N_36, D17 IO_L1N_36, E16 IO_L13P_36, E17 IO_L0N_36, E18 IO_L1P_36, F15 IO_L16N_36, F16 IO_L12P_VRN_36, F17 VCCO_36, F18 IO_L0P_36, G15 IO_L16P_36, G16 IO_L12N_VRP_36, G17 IO_L3N_36, G18 IO_L8P_SRCC_36, H15 IO_L18P_36, H17 IO_L3P_36, H18 IO_L8N_SRCC_36, J15 IO_L18N_36, J16 IO_L14N_VREF_36, J17 IO_L14P_36, J18 VCCO_36, J19 IO_L6N_36, K15 VCCO_36, K16 IO_L9P_MRCC_36, K17 IO_L2N_36, K18 IO_L2P_36, K19 IO_L6P_36, L14 IO_L10N_MRCC_36, L15 IO_L10P_MRCC_36, L16 IO_L9N_MRCC_36, L18 IO_L4N_VREF_36, L19 IO_L4P_36, M15 IO_L17N_36, M16 IO_L17P_36, M17 IO_L7N_36, M18 IO_L7P_36
part I pins: AB1 MGTTXP3_113, AB2 MGTTXN3_113, AB5 MGTREFCLK1N_113, AB6 MGTREFCLK1P_113, AC3 MGTRXP3_113, AC4 MGTRXN3_113, AD1 MGTTXP2_113, AD2 MGTTXN2_113, AD5 MGTREFCLK0N_113, AD6 MGTREFCLK0P_113, AE3 MGTRXP2_113, AE4 MGTRXN2_113, AF1 MGTTXP1_113, AF2 MGTTXN1_113, AF5 MGTRXP1_113, AF6 MGTRXN1_113, AG3 MGTRXP0_113, AG4 MGTRXN0_113, AH1 MGTTXP0_113, AH2 MGTTXN0_113, AH5 MGTREFCLK1N_112, AH6 MGTREFCLK1P_112, AJ3 MGTRXP3_112, AJ4 MGTRXN3_112, AK1 MGTTXP3_112, AK2 MGTTXN3_112, AK5 MGTREFCLK0N_112, AK6 MGTREFCLK0P_112, AL3 MGTRXP2_112, AL4 MGTRXN2_112, AM1 MGTTXP2_112, AM2 MGTTXN2_112, AM5 MGTRXP1_112, AM6 MGTRXN1_112, AN3 MGTTXP1_112, AN4 MGTTXN1_112, AP1 MGTTXP0_112, AP2 MGTTXN0_112, AP5 MGTRXP0_112, AP6 MGTRXN0_112
part J pins: AA3 MGTRXP0_114, AA4 MGTRXN0_114, F1 MGTTXP3_115, F2 MGTTXN3_115, H1 MGTTXP2_115, H2 MGTTXN2_115, J3 MGTRXP3_115, J4 MGTRXN3_115, K1 MGTTXP1_115, K2 MGTTXN1_115, K5 MGTRXP2_115, K6 MGTRXN2_115, L3 MGTRXP1_115, L4 MGTRXN1_115, M1 MGTTXP0_115, M2 MGTTXN0_115, M5 MGTREFCLK1N_115, M6 MGTREFCLK1P_115, N3 MGTRXP0_115, N4 MGTRXN0_115, P1 MGTTXP3_114, P2 MGTTXN3_114, P5 MGTREFCLK0N_115, P6 MGTREFCLK0P_115, R3 MGTRXP3_114, R4 MGTRXN3_114, T1 MGTTXP2_114, T2 MGTTXN2_114, T5 MGTREFCLK1N_114, T6 MGTREFCLK1P_114, U3 MGTRXP2_114, U4 MGTRXN2_114, V1 MGTTXP1_114, V2 MGTTXN1_114, V5 MGTREFCLK0N_114, V6 MGTREFCLK0P_114, W3 MGTRXP1_114, W4 MGTRXN1_114, Y1 MGTTXP0_114, Y2 MGTTXN0_114
part K pins: A3 MGTTXP3_116, A4 MGTTXN3_116, B1 MGTTXP2_116, B2 MGTTXN2_116, B5 MGTRXP3_116, B6 MGTRXN3_116, C3 MGTTXP1_116, C4 MGTTXN1_116, D1 MGTTXP0_116, D2 MGTTXN0_116, D5 MGTRXP2_116, D6 MGTRXN2_116, E3 MGTRXP1_116, E4 MGTRXN1_116, F5 MGTREFCLK1N_116, F6 MGTREFCLK1P_116, G3 MGTRXP0_116, G4 MGTRXN0_116, H5 MGTREFCLK0N_116, H6 MGTREFCLK0P_116
part L pins: AA6 MGTAVCC_S, AC2 MGTAVTT_S, AC6 MGTAVCC_S, AD3 MGTAVTT_S, AE6 MGTAVCC_S, AG2 MGTAVTT_S, AG6 MGTAVCC_S, AH3 MGTAVTT_S, AJ6 MGTAVCC_S, AL2 MGTAVTT_S, AL6 MGTAVCC_S, AM3 MGTAVTT_S, AN6 MGTAVCC_S, AN7 MGTRREF_115, AP7 MGTAVTTRCAL_115, C2 MGTAVTT_N, C6 MGTAVCC_N, D3 MGTAVTT_N, E6 MGTAVCC_N, G2 MGTAVTT_N, G6 MGTAVCC_N, H3 MGTAVTT_N, J6 MGTAVCC_N, L2 MGTAVTT_N, L6 MGTAVCC_N, M3 MGTAVTT_N, N6 MGTAVCC_N, R2 MGTAVTT_S, R6 MGTAVCC_S, T3 MGTAVTT_S, U6 MGTAVCC_S, W2 MGTAVTT_S, W6 MGTAVCC_S, Y3 MGTAVTT_S
part M pins: AA8 DOUT_BUSY_0, AB9 VCCO_0, AC8 TDO_0, AD8 TDI_0, AE8 TCK_0, AF8 TMS_0, F8 CSI_B_0, G8 RDWR_B_0, H8 DIN_0, K8 CCLK_0, L8 PROGRAM_B_0, M8 HSWAPEN_0, P8 INIT_B_0, R8 DONE_0, U8 M0_0, U17 VREFN_0, U18 VP_0, V8 M2_0, V17 VN_0, V18 VREFP_0, W8 M1_0, W17 DXN_0, W18 DXP_0, Y9 VCCO_0
part N pins: A1 GND, A2 GND, A5 GND, A6 GND, A7 GND, A17 GND, A27 GND, A34 GND, AA10 VCCAUX, AA12 VCCINT, AA14 VCCINT, AA16 VCCINT, AA18 VCCINT, AA20 VCCINT, AA22 VCCAUX, AB11 VCCINT, AB13 VCCINT, AB15 VCCINT, AB17 VCCINT, AB19 VCCINT, AB21 VCCINT, B3 GND, B4 GND, B7 GND, B14 GND, B24 GND, C1 GND, C5 GND, C7 GND, C11 GND, C21 GND, C31 GND, D4 GND, D7 GND, D8 GND, D18 GND, D28 GND, E1 GND, E2 GND, E5 GND, E7 GND, E15 GND, E25 GND, F3 GND, F4 GND, F7 GND, F12 GND, F22 GND, F32 GND, G1 GND, G5 GND, G7 GND, G9 GND, G19 GND, G29 GND, H4 GND, H7 GND, H16 GND, H26 GND, J1 GND, J2 GND, J5 GND, J7 GND, J8 GND, J13 GND, J23 GND, J33 GND, K3 GND, K4 GND, K7 GND, K10 GND, K20 GND, K30 GND, L1 GND, L5 GND, L7 GND, L17 GND, L27 GND, M4 GND, M7 GND, M14 GND, M19 VCCINT, M20 GND, M21 VCCINT, M24 GND, M34 GND, N1 GND, N2 GND, N5 GND, N7 GND, N8 VBATT_0, N9 GND, N10 VCCAUX, N11 GND, N12 VCCINT, N13 GND, N14 VCCINT, N15 GND, N16 VCCINT, N17 GND, N18 VCCINT, N19 GND, N20 VCCINT, N21 GND, N22 VCCAUX, N31 GND, P3 GND, P4 GND, P7 GND, P9 VCCAUX, P10 GND, P11 VCCINT, P12 GND, P13 VCCINT, P14 GND, P15 VCCINT, P16 GND, P17 VCCINT, P18 GND, P19 VCCINT, P20 GND, P21 VCCINT, P22 GND, P23 VCCAUX, P28 GND, R1 GND, R5 GND, R7 GND, R9 GND, R10 VCCINT, R11 GND, R12 VCCINT, R13 GND, R14 VCCINT, R16 VCCINT, R18 VCCINT, R20 VCCINT, R22 VCCAUX, T9 VCCAUX, T11 VCCINT, T13 VCCINT, T15 VCCINT, T17 AVSS_0, T18 AVDD_0, T19 VCCINT, T21 VCCINT, U10 VCCINT, U12 VCCINT, U14 VCCINT, U16 VCCINT, U20 VCCINT, U22 VCCAUX, V9 VCCAUX, V11 VCCINT, V13 VCCINT, V15 VCCINT, V19 VCCINT, V21 VCCINT, W10 VCCAUX, W12 VCCINT, W14 VCCINT, W16 VCCINT, W20 VCCINT, W22 VCCAUX, Y8 VFS_0, Y11 VCCINT, Y13 VCCINT, Y15 VCCINT, Y17 VCCINT, Y19 VCCINT, Y21 VCCINT, Y23 VCCAUX
part O pins: AA1 GND, AA2 GND, AA5 GND, AA7 GND, AA9 GND, AA11 GND, AA13 GND, AA15 GND, AA17 GND, AA19 GND, AA21 GND, AA27 GND, AB3 GND, AB4 GND, AB7 GND, AB8 GND, AB12 GND, AB14 GND, AB16 GND, AB18 GND, AB20 GND, AB22 GND, AB24 GND, AB34 GND, AC1 GND, AC5 GND, AC7 GND, AC11 GND, AC21 GND, AC31 GND, AD4 GND, AD7 GND, AD18 GND, AD28 GND, AE1 GND, AE2 GND, AE5 GND, AE7 GND, AE15 GND, AE25 GND, AF3 GND, AF4 GND, AF7 GND, AF12 GND, AF22 GND, AF32 GND, AG1 GND, AG5 GND, AG7 GND, AG9 GND, AG19 GND, AG29 GND, AH4 GND, AH7 GND, AH16 GND, AH26 GND, AJ1 GND, AJ2 GND, AJ5 GND, AJ7 GND, AJ13 GND, AJ23 GND, AJ33 GND, AK3 GND, AK4 GND, AK7 GND, AK10 GND, AK20 GND, AK30 GND, AL1 GND, AL5 GND, AL7 GND, AL17 GND, AL27 GND, AM4 GND, AM7 GND, AM8 GND, AM14 GND, AM24 GND, AM34 GND, AN1 GND, AN2 GND, AN5 GND, AN8 GND, AN11 GND, AN21 GND, AN31 GND, AP3 GND, AP4 GND, AP8 GND, AP18 GND, AP28 GND, AP34 GND, R15 GND, R17 GND, R19 GND, R21 GND, R23 GND, R25 GND, T4 GND, T7 GND, T8 GND, T10 GND, T12 GND, T14 GND, T16 GND, T20 GND, T22 GND, T32 GND, U1 GND, U2 GND, U5 GND, U7 GND, U9 GND, U11 GND, U13 GND, U15 GND, U19 GND, U21 GND, U29 GND, V3 GND, V4 GND, V7 GND, V10 GND, V12 GND, V14 GND, V16 GND, V20 GND, V22 GND, V26 GND, W1 GND, W5 GND, W7 GND, W9 GND, W11 GND, W13 GND, W15 GND, W19 GND, W21 GND, W23 GND, W33 GND, Y4 GND, Y5 GND, Y6 GND, Y7 GND, Y10 GND, Y12 GND, Y14 GND, Y16 GND, Y18 GND, Y20 GND, Y22 GND, Y30 GND

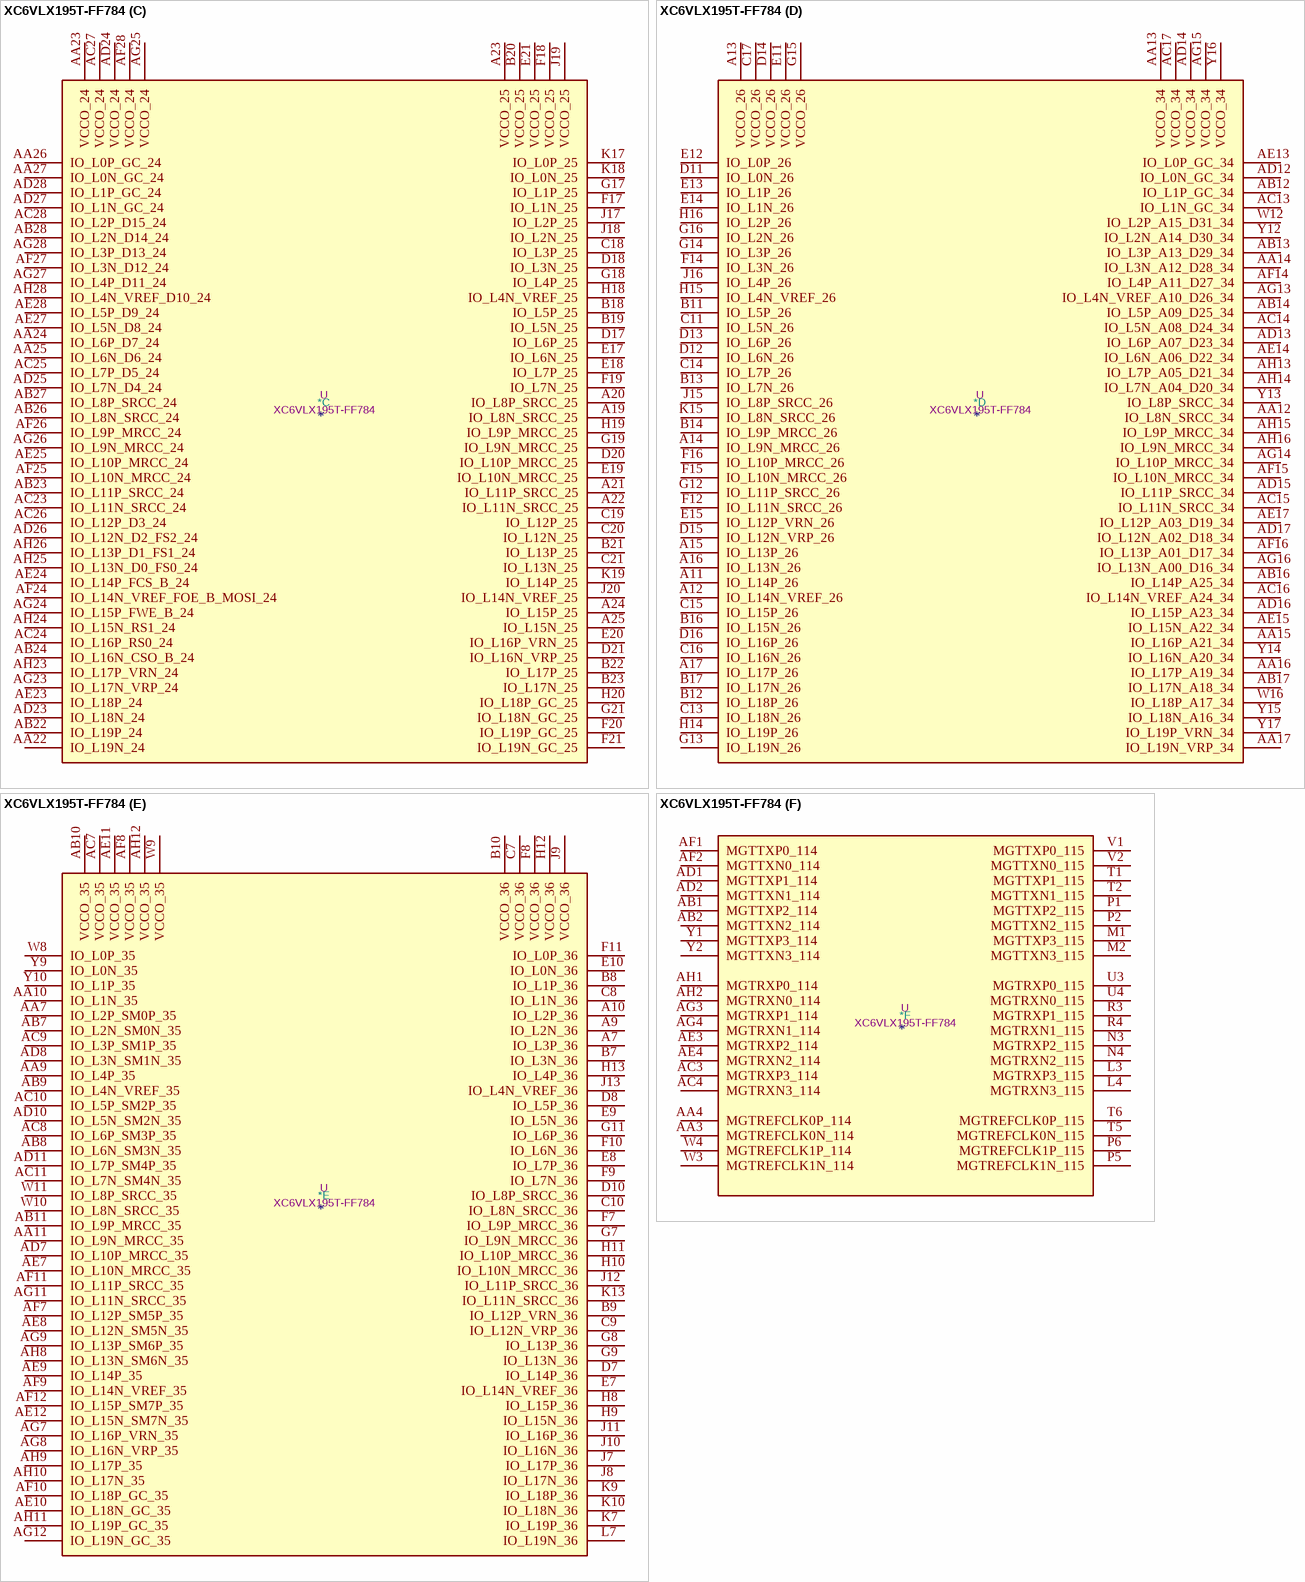
[diagram p46: symbol XC6VLX195T-FF784]

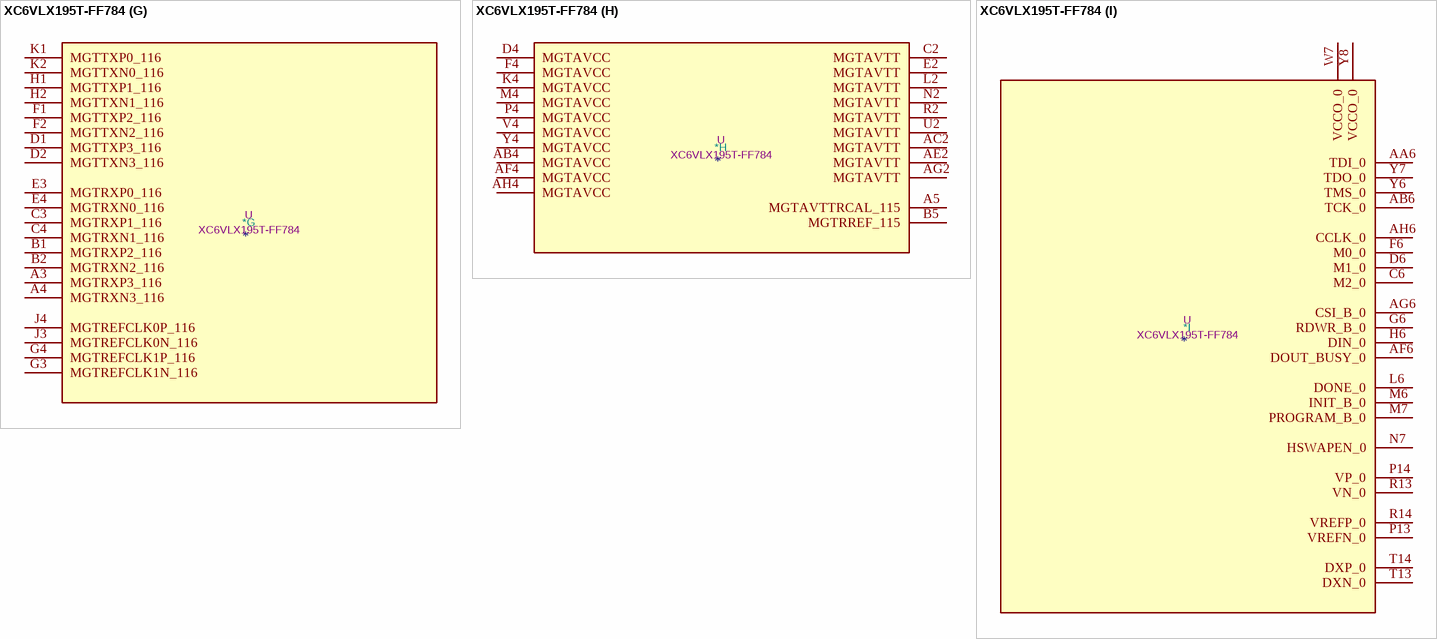
[diagram p47: symbol XC6VLX195T-FF784]

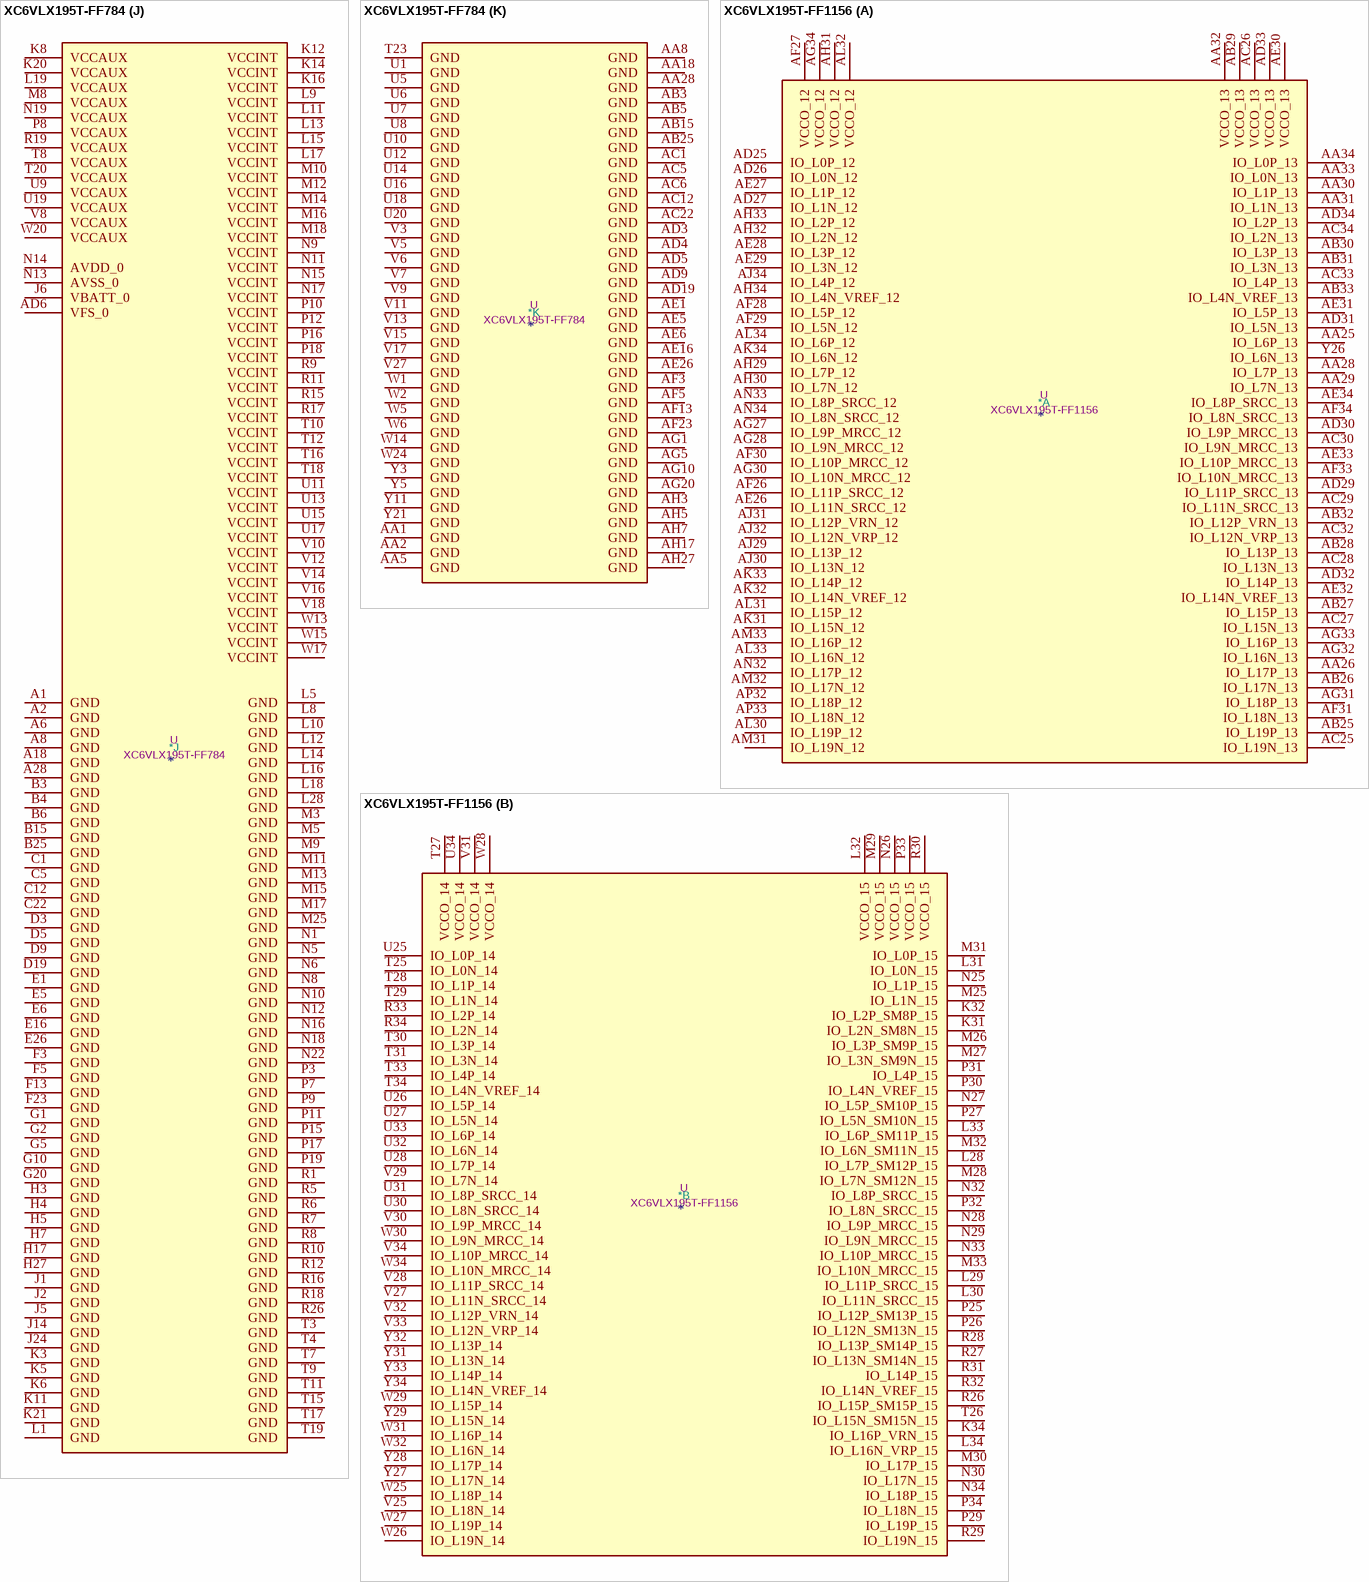
[diagram p48: symbols XC6VLX195T-FF784 to XC6VLX195T-FF1156]